# Altium schematic symbol library Sch_Device_veryaz.SchLib: 648 symbols (part 2 of 4)
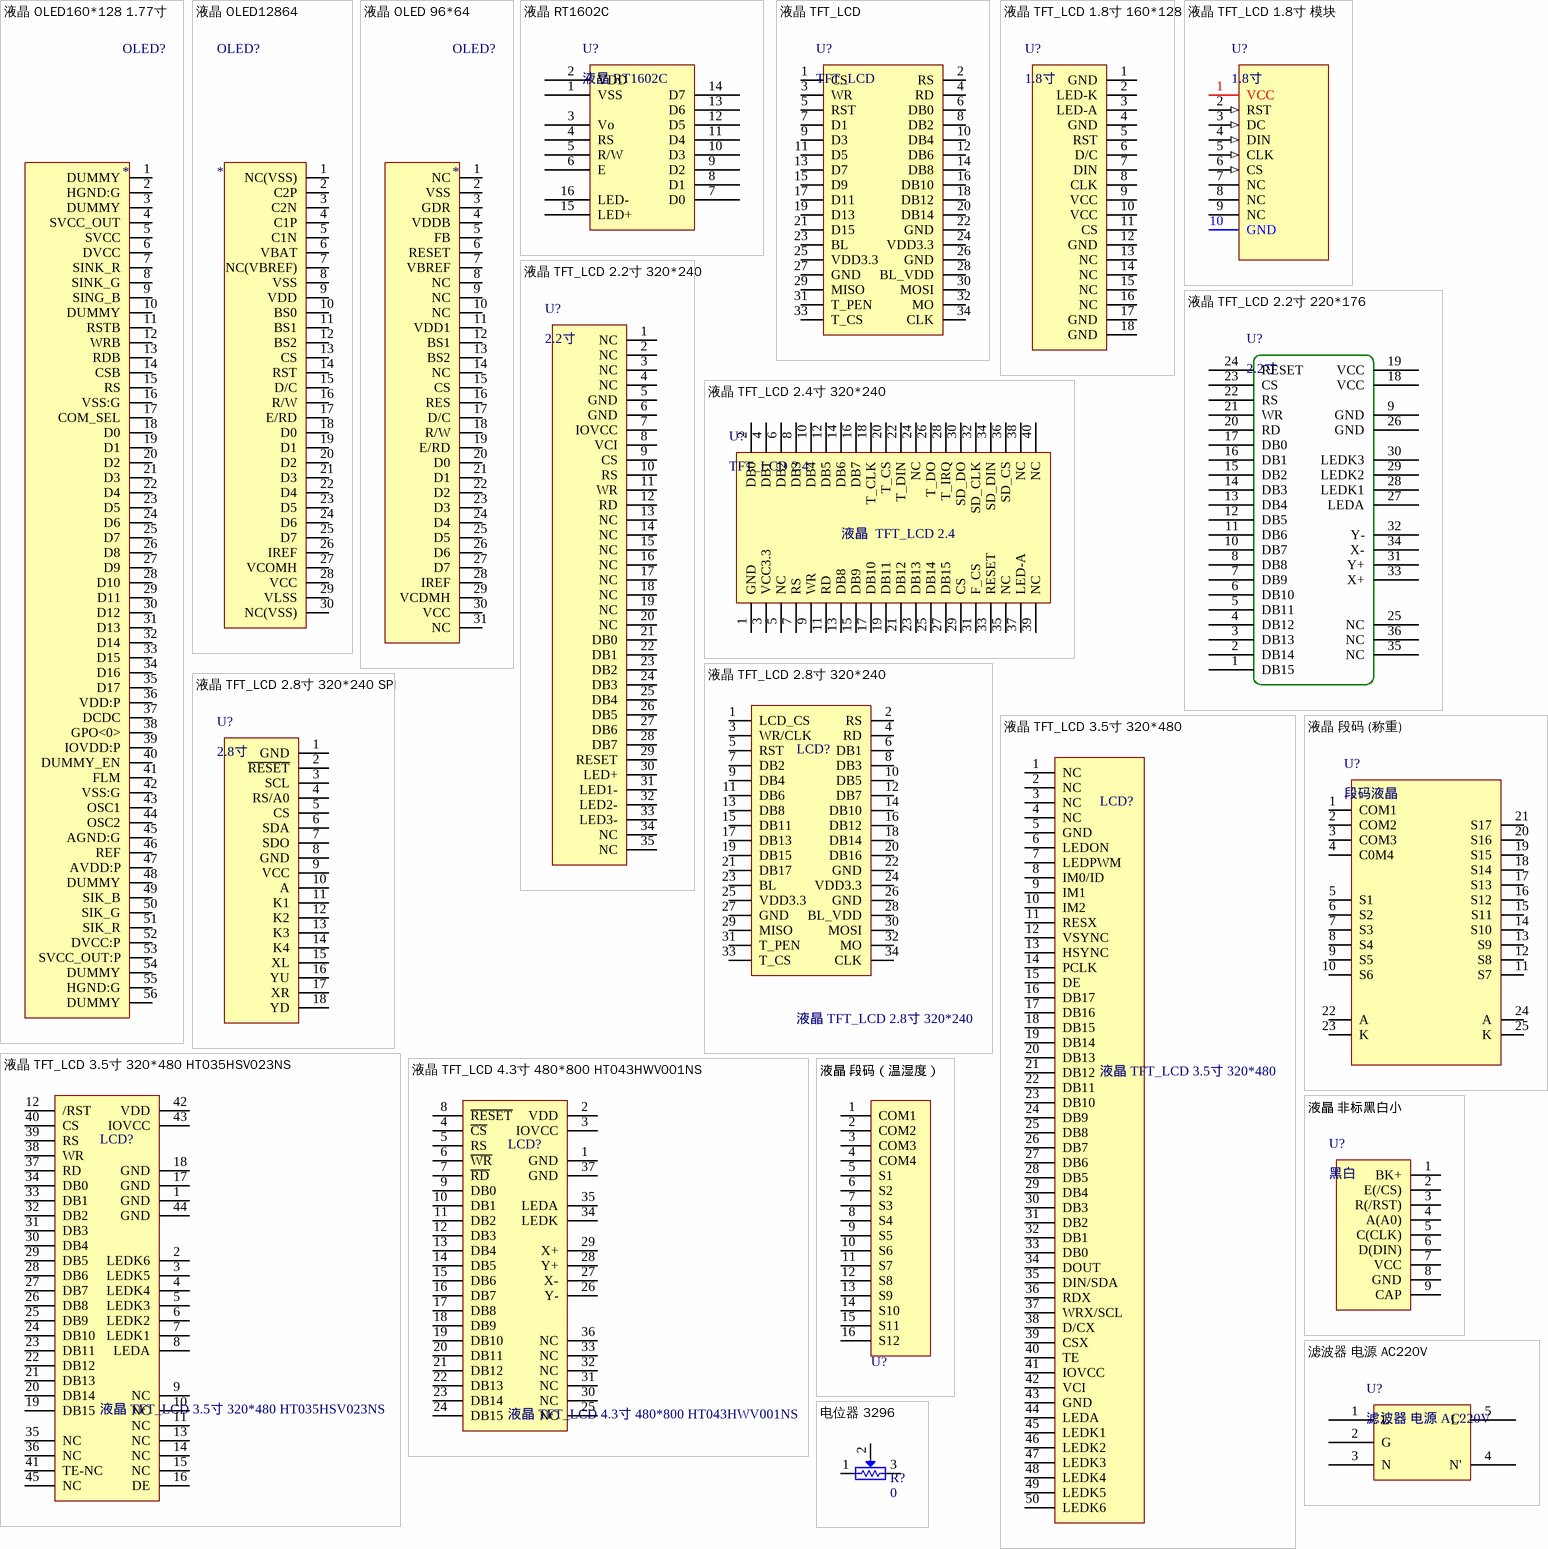
[diagram p32: symbols 液晶 OLED160*128 1.77寸 to 电位器 3296]

## 液晶 TFT_LCD 3.5寸 320*480 HT035HSV023NS
designator LCD?
单位: 块; 封装: 直插; 名称: 液晶屏
footprint 液晶 TFT 3.5寸  320*480 HT035SHV023NS
pins: 1 GND, 2 LEDK6, 3 LEDK5, 4 LEDK4, 5 LEDK3, 6 LEDK2, 7 LEDK1, 8 LEDA, 9 NC, 10 NC, 11 NC, 12 /RST, 13 NC, 14 NC, 15 NC, 16 DE, 17 GND, 18 GND, 19 DB15, 20 DB14, 21 DB13, 22 DB12, 23 DB11, 24 DB10, 25 DB9, 26 DB8, 27 DB7, 28 DB6, 29 DB5, 30 DB4, 31 DB3, 32 DB2, 33 DB1, 34 DB0, 35 NC, 36 NC, 37 RD, 38 WR, 39 RS, 40 CS, 41 TE-NC, 42 VDD, 43 IOVCC, 44 GND, 45 NC

## 液晶 TFT_LCD 4.3寸 480*800 HT043HWV001NS
designator LCD?
单位: 块; 封装: 直插; 名称: 液晶屏
footprint 液晶 TFT 4.3寸 480*800 HT043SWV001NS
pins: 1 GND, 2 VDD, 3 IOVCC, 4 ~{CS}, 5 RS, 6 ~{WR}, 7 ~{RD}, 8 ~{RESET}, 9 DB0, 10 DB1, 11 DB2, 12 DB3, 13 DB4, 14 DB5, 15 DB6, 16 DB7, 17 DB8, 18 DB9, 19 DB10, 20 DB11, 21 DB12, 22 DB13, 23 DB14, 24 DB15, 25 NC, 26 Y-, 27 X-, 28 Y+, 29 X+, 30 NC, 31 NC, 32 NC, 33 NC, 34 LEDK, 35 LEDA, 36 NC, 37 GND

## 液晶 段码 (称重)
designator U?, comment 段码液晶
footprint 段码液晶 称重 (Footprint not found)
pins: 1 COM1, 2 COM2, 3 COM3, 4 C0M4, 5 S1, 6 S2, 7 S3, 8 S4, 9 S5, 10 S6, 11 S7, 12 S8, 13 S9, 14 S10, 15 S11, 16 S12, 17 S13, 18 S14, 19 S15, 20 S16, 21 S17, 22 A, 23 K, 24 A, 25 K

## 液晶 段码（温湿度）
designator U?  (value not drawn)
单位: 个; 名称: 星望段码液晶; 封装: 无
footprint 液晶 段码（温湿度） (Footprint not found)
pins: 1 COM1, 2 COM2, 3 COM3, 4 COM4, 5 S1, 6 S2, 7 S3, 8 S4, 9 S5, 10 S6, 11 S7, 12 S8, 13 S9, 14 S10, 15 S11, 16 S12

## 液晶 非标黑白小
designator U?, comment 黑白
单位: 个; 封装: 贴片; 名称: 黑白
footprint 液晶 非标黑白小 (Footprint not found)
pins: 1 BK+, 2 E(/CS), 3 R(/RST), 4 A(A0), 5 C(CLK), 6 D(DIN), 7 VCC, 8 GND, 9 CAP

## 滤波器 电源 AC220V
designator U?
单位: 个; 封装: 直插; 名称: AC220 电源滤波器
footprint 滤波器 电源 220V
pins: 1 L, 2 G, 3 N, 4 N', 5 L'

## 电位器 3296
designator R?, comment 0
名称: 电位器; 封装: 直插 3296; 单位: 个
footprint 电位器 (Potentiometer; 3 Leads)
pins: 1 BOT, 2 TAP, 3 TOP
1 alternate drawing of the same symbol

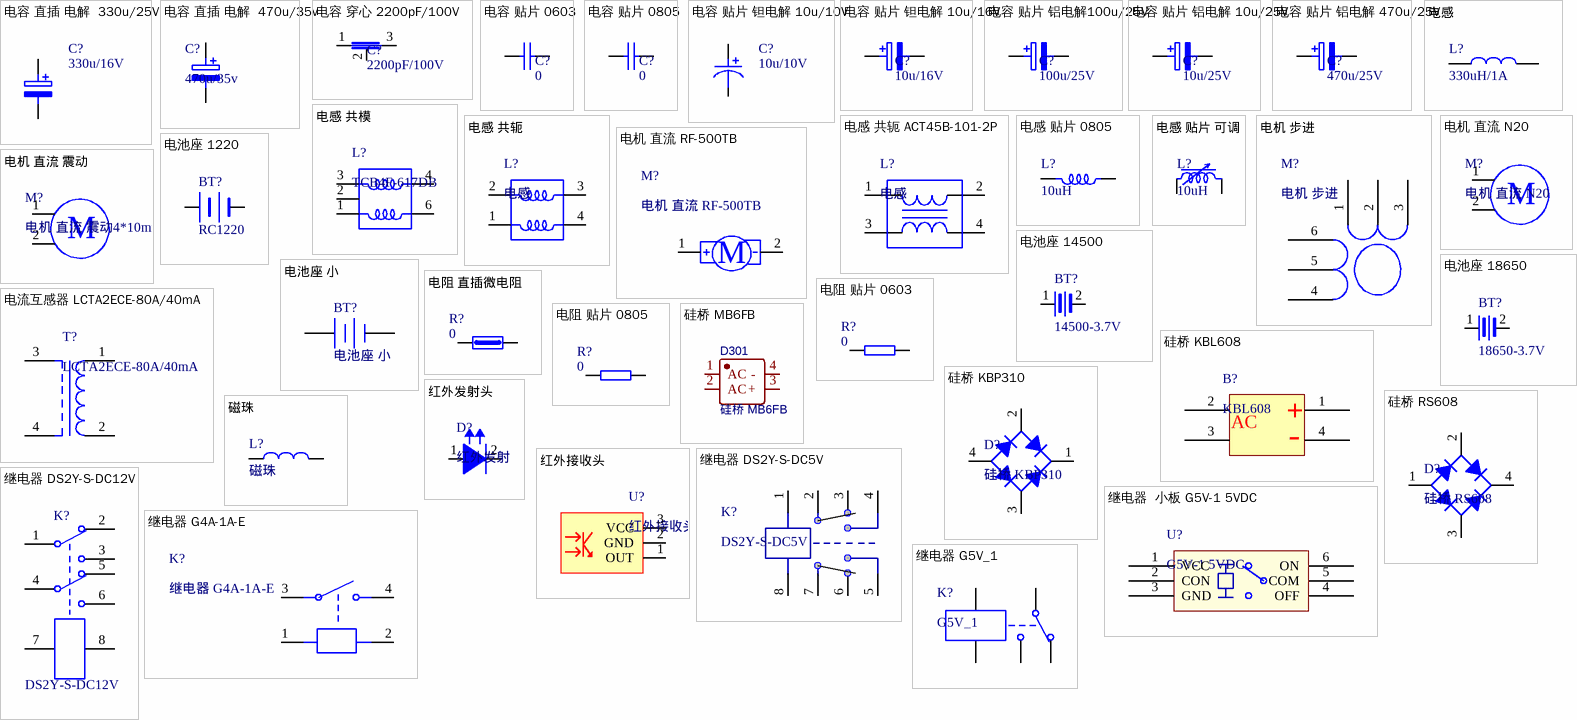
[diagram p9: symbols 电容 直插 电解  330u/25V to 继电器 G5V_1]

## 电容 直插 电解  330u/25V
designator C?, comment 330u/16V
名称: 电解电容; 封装: 直插; 单位: 个
footprint 电容 直插 470UF/25V
pins: 1, 2
2 alternate drawings of the same symbol

## 电容 直插 电解  470u/35v
designator C?, comment 470u/35v
名称: 电解电容; 封装: 直插; 单位: 个
footprint 电容 直插 470UF/25V
pins: 1, 2

## 电容 穿心 2200pF/100V
designator C?, comment 2200pF/100V
名称: 穿心电容; 封装: 直插; 单位: 个
footprint 电容 穿心 DIP3
pins: 1, 2, 3
2 alternate drawings of the same symbol

## 电容 贴片 0603
designator C?, comment 0
名称: 贴片电容; 封装: 0603; 单位: 个
footprint 0603
pins: 1, 2
2 alternate drawings of the same symbol

## 电容 贴片 0805
designator C?, comment 0
名称: 贴片电容; 封装: 0805; 单位: 个
footprint 0805
pins: 1, 2
2 alternate drawings of the same symbol

## 电容 贴片 钽电解 10u/10V
designator C?, comment 10u/10V
名称: 贴片钽电容; 封装: 贴片; 单位: 个
footprint 电容 钽电解 1206
pins: 1, 2
2 alternate drawings of the same symbol

## 电容 贴片 钽电解 10u/16V
designator C?, comment 10u/16V
名称: 贴片钽电解电容; 封装: 3528; 单位: 个
footprint 电容 钽电解 3528
pins: 1, 2
2 alternate drawings of the same symbol

## 电容 贴片 铝电解100u/25V
designator C?, comment 100u/25V
名称: 贴片铝电解电容; 封装: 贴片; 单位: 个
footprint 电容 铝电解 100u/25V
pins: 1, 2
2 alternate drawings of the same symbol

## 电容 贴片 铝电解 10u/25V
designator C?, comment 10u/25V
名称: 贴片铝电解电容; 封装: 贴片; 单位: 个
footprint 电容 铝电解 10u/25V
pins: 1, 2
2 alternate drawings of the same symbol

## 电容 贴片 铝电解 470u/25V
designator C?, comment 470u/25V
名称: 贴片铝电解电容; 封装: 贴片; 单位: 个
footprint 电容 铝电解 470U/35V
pins: 1, 2
2 alternate drawings of the same symbol

## 电感
designator L?, comment 330uH/1A
名称: 电感; 封装: 直插; 单位: 个
footprint 电感 直插
pins: 1, 2

## 电感 共模
designator L?, comment TCB4F-617DB
封装: 贴片; 单位: 个; 名称: 电感
footprint 电感 TCB4F-617DB (Footprint not found)
pins: 1, 2, 3, 4, 6

## 电感 共轭
designator L?, comment 电感
封装: DIP; 单位: 个; 名称: 电感
footprint 电感 DIP4 (Footprint not found)
pins: 1, 2, 3, 4

## 电感 共轭 ACT45B-101-2P
designator L?, comment 电感
封装: DIP; 单位: 个; 名称: 电感
footprint 电感 DIP4 (Footprint not found)
pins: 1, 2, 3, 4

## 电感 贴片 0805
designator L?, comment 10uH
名称: 贴片电感; 封装: 0805; 单位: 个
footprint 0805
pins: 1, 2

## 电感 贴片 可调
designator L?, comment 10uH
名称: 贴片电感; 封装: 0805; 单位: 个
footprint 0805
pins: 1, 2

## 电机 步进
designator M?
单位: 台; 封装: 固定安装; 名称: 电机_步进
footprint 电机_B
pins: 1, 2, 3, 4, 5, 6

## 电机 直流 N20
designator M?
单位: 个; 封装: 直插; 名称: N20
footprint N20电机
pins: 1 +, 2 -
text: M

## 电机 直流 RF-500TB
designator M?
单位: 台; 封装: 固定安装; 名称: 电机_直流
footprint 电机_D
pins: 1 +, 2 -
text: M

## 电机 直流 震动
designator M?, comment 电机 直流 震动4*10mm
单位: 个; 封装: 直插; 名称: 震动电机
footprint 电机_4*10mm (Footprint not found)
pins: 1 +, 2 -
text: M

## 电池座 1220
designator BT?, comment RC1220
footprint BAT-3V
pins: 1 +, 2 -
2 alternate drawings of the same symbol

## 电池座 14500
designator BT?, comment 14500-3.7V
footprint 电池座 14500
pins: 1 +, 2 -
2 alternate drawings of the same symbol

## 电池座 18650
designator BT?, comment 18650-3.7V
footprint 电池座 18650
pins: 1 +, 2 -
2 alternate drawings of the same symbol

## 电池座 小
designator BT?
Published: 24-Mar-1999; LatestRevisionDate: 17-Jul-2002; LatestRevisionNote: Re-released for DXP Platform.; PackageReference: BAT-2; Publisher: Altium Limited
footprint 电池-3.3V 平放
pins: 1 +, 2 -

## 电流互感器 LCTA2ECE-80A/40mA
designator T?, comment LCTA2ECE-80A/40mA
封装: 直插; 单位: 个; 名称: 电流互感器
footprint 电流互感器 LCTA2ECE-80A/40mA
pins: 1, 2, 3, 4

## 电阻 直插微电阻
designator R?, comment 0
名称: 微电阻; 封装: 直插; 单位: 个
footprint AXIAL-0.4 (Resistor; 2 Leads)
pins: 1, 2

## 电阻 贴片 0603
designator R?, comment 0
名称: 贴片电阻; 封装: 0603; 单位: 个
footprint 0603
pins: 1, 2

## 电阻 贴片 0805
designator R?, comment 0
名称: 贴片电阻; 封装: 0805; 单位: 个
footprint 0805
pins: 1, 2

## 硅桥 KBL608
designator B?, comment KBL608
封装: 直插; 单位: 个; 名称: 硅桥
footprint 硅桥 KBL608
pins: 1, 2, 3, 4
text: +; AC; -

## 硅桥 KBP310
designator D?
单位: 个; 封装: 直插; 名称: 硅桥
footprint 硅桥 KBL310
pins: 1 -, 2, 3, 4 +

## 硅桥 MB6FB
designator D301
BOM_Manufacturer: Jingdao; BOM_Paste Type: expand; BOM_Supplier: LCSC; BOM_Manufacturer Part: MB6FB; BOM_Supplier Part: C108828; spicePre: D; spiceSymbolName: MB6FB
footprint MBF (Footprint not found)
pins: 1 AC, 2 AC, 3 +, 4 -

## 硅桥 RS608
designator D?
单位: 个; 封装: 直插; 名称: 硅桥
footprint 硅桥 KBL608
pins: 1 -, 2, 3, 4 +

## 磁珠
designator L?
封装: 0805; 单位: 个; 名称: 磁珠
footprint 0805
pins: 1, 2

## 红外发射头
designator D?, comment 红外发射
单位: 个; 封装: 直插; 名称: 红外发射
footprint LED5_单色
pins: 1 A, 2 K

## 红外接收头
designator U?
单位: 个; 封装: 直插; 名称: 红外接收头
footprint 红外接收头
pins: 1 OUT, 2 GND, 3 VCC

## 继电器  小板 G5V-1 5VDC
designator U?, comment G5V-1 5VDC
footprint 继电器 小板 G5V-1 5VDC
pins: 1 VCC, 2 CON, 3 GND, 4 OFF, 5 COM, 6 ON

## 继电器 DS2Y-S-DC5V
designator K?, comment DS2Y-S-DC5V
单位: 个; 名称: 继电器
footprint 继电器 DS2Y-S-DC5V
pins: 1, 2, 3, 4, 5, 6, 7, 8

## 继电器 DS2Y-S-DC12V
designator K?, comment DS2Y-S-DC12V
名称: 继电器; 单位: 个; 封装: 直插
footprint 继电器 DS2Y-S-DC12V
footprint 继电器 DS2Y-S-DC5V
pins: 1, 2, 3, 4, 5, 6, 7, 8

## 继电器 G4A-1A-E
designator K?
单位: 个; 封装: 继电器 G4A-1A-E; 名称: 继电器
footprint 继电器 G4A-1A-E
pins: 1, 2, 3, 4

## 继电器 G5V_1
designator K?, comment G5V_1
单位: 个; 封装: G5V-1; 名称: 继电器
footprint 继电器 G5V-1
pins: 1, 2, 3, 4, 5

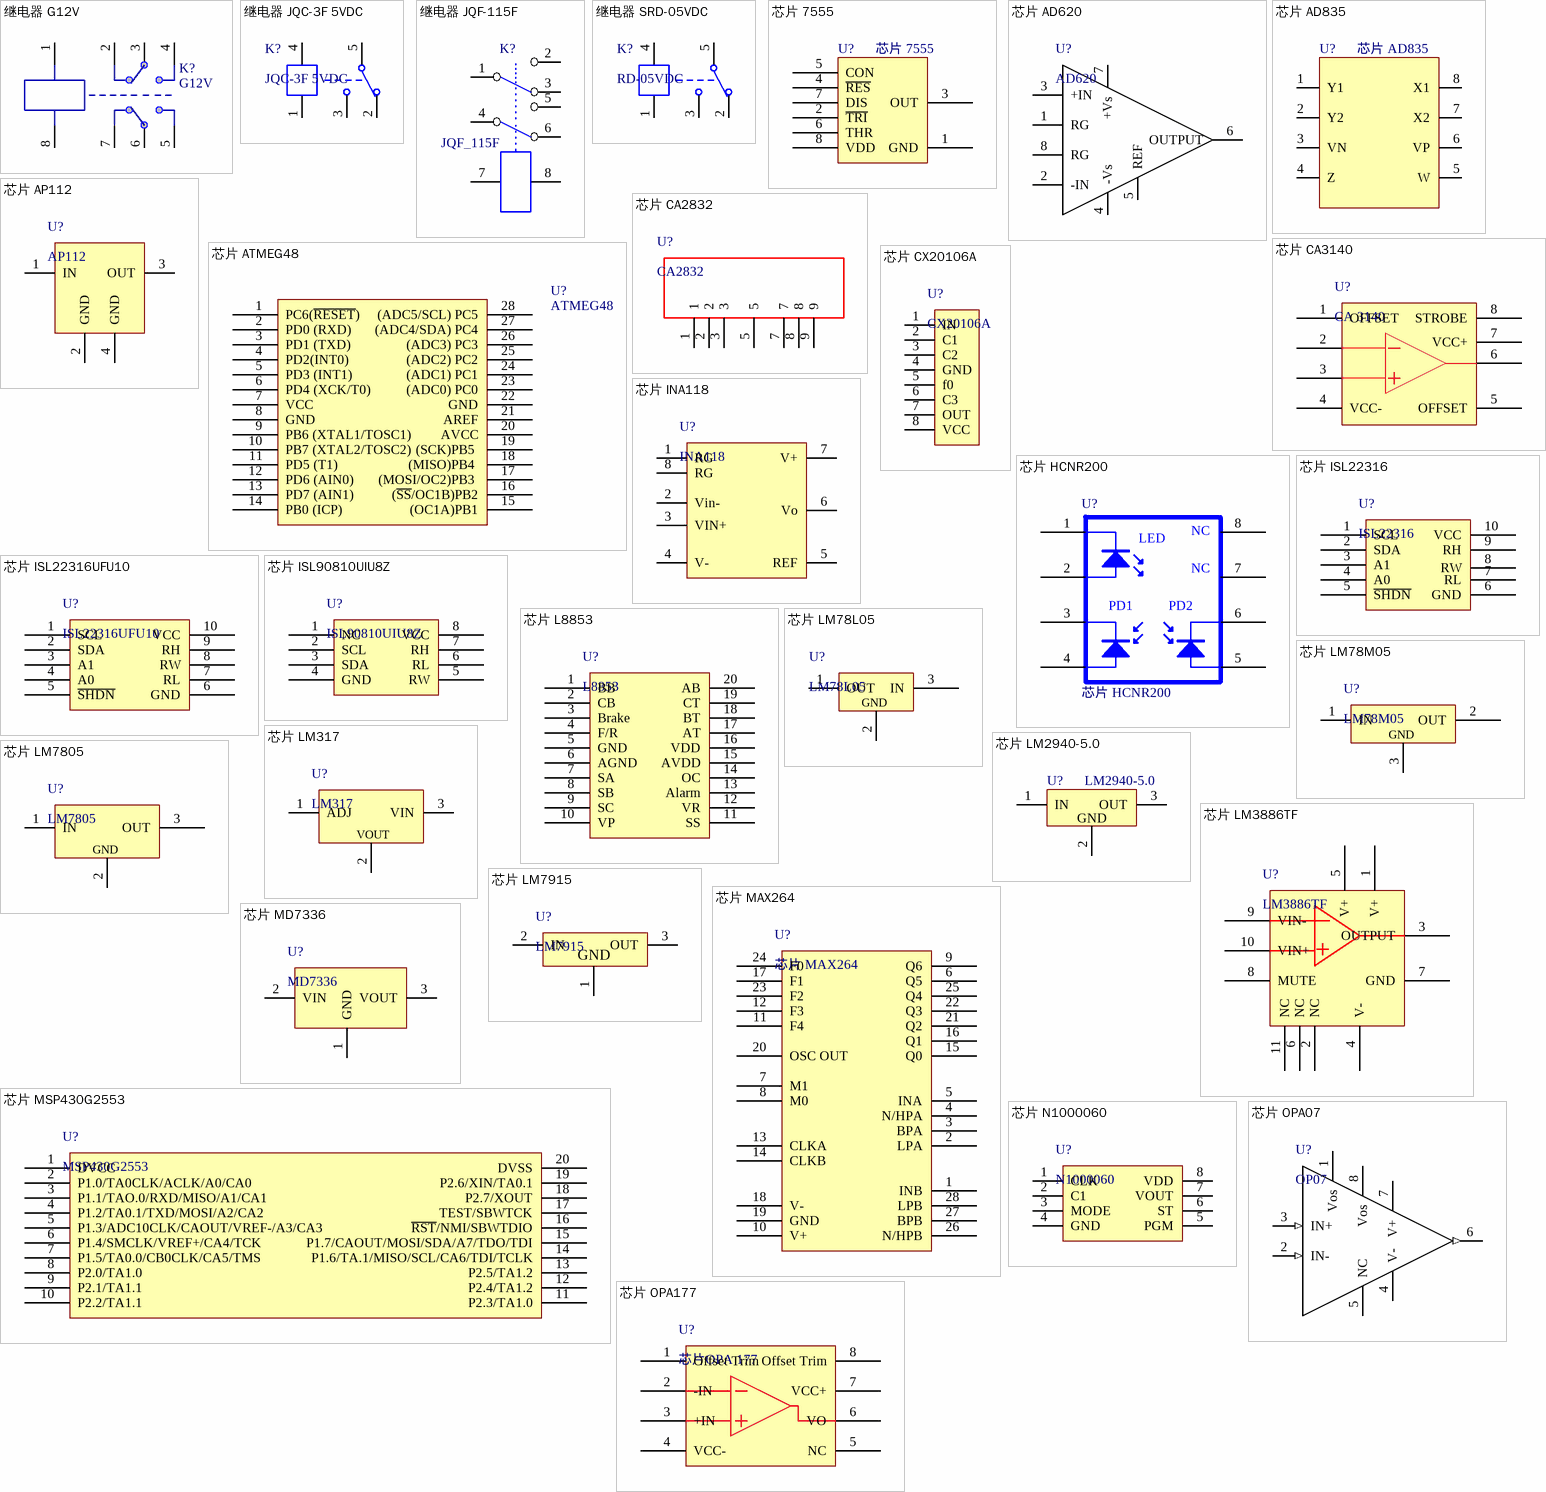
[diagram p10: symbols 继电器 G12V to 芯片 OPA177]

## 继电器 G12V
designator K?, comment G12V
单位: 个; 名称: 继电器
footprint 继电器 G2R-2
pins: 1, 2, 3, 4, 5, 6, 7, 8

## 继电器 JQC-3F 5VDC
designator K?, comment JQC-3F 5VDC
单位: 个; 名称: 继电器; 封装: JQC-3F 5VDC
footprint 继电器 JQC-3F 5VDC (Footprint not found)
pins: 1, 2, 3, 4, 5

## 继电器 JQF-115F
designator K?, comment JQF_115F
footprint 继电器 JQF_115F
pins: 1, 2, 3, 4, 5, 6, 7, 8

## 继电器 SRD-05VDC
designator K?, comment RD-05VDC
单位: 个; 名称: 继电器; 封装: RD-05VDC
footprint 继电器 RD-05VDC (Footprint not found)
pins: 1, 2, 3, 4, 5

## 芯片 7555
designator U?
封装: DIP8; 单位: 片; 名称: 芯片
footprint DIP8 (DIP; 8 Leads; Row Spacing 7.62 mm; Pitch 2.54 mm)
pins: 1 GND, 2 ~{TRI}, 3 OUT, 4 ~{RES}, 5 CON, 6 THR, 7 DIS, 8 VDD

## 芯片 AD620
designator U?, comment AD620
单位: 片; 封装: DIP8; 名称: 芯片
footprint DIP8 (DIP; 8 Leads; Row Spacing 7.62 mm; Pitch 2.54 mm)
pins: 1 RG, 2 -IN, 3 +IN, 4 -Vs, 5 REF, 6 OUTPUT, 7 +Vs, 8 RG

## 芯片 AD835
designator U?
封装: DIP8; 单位: 片; 名称: 芯片
footprint DIP8 (DIP; 8 Leads; Row Spacing 7.62 mm; Pitch 2.54 mm)
pins: 1 Y1, 2 Y2, 3 VN, 4 Z, 5 W, 6 VP, 7 X2, 8 X1

## 芯片 AP112
designator U?, comment AP112
footprint SOT89 AP112
pins: 1 IN, 2 GND, 3 OUT, 4 GND

## 芯片 ATMEG48
designator U?, comment ATMEG48
名称: 芯片; 封装: PDIP28; 单位: 个
footprint DIP28
pins: 1 PC6(~{RESET}) , 2 PD0 (RXD), 3 PD1 (TXD), 4 PD2(INT0), 5 PD3 (INT1), 6 PD4 (XCK/T0), 7 VCC, 8 GND, 9 PB6 (XTAL1/TOSC1), 10 PB7 (XTAL2/TOSC2), 11 PD5 (T1), 12 PD6 (AIN0), 13 PD7 (AIN1), 14 PB0 (ICP), 15  (OC1A)PB1, 16  (~{SS}/OC1B)PB2, 17 (MOSI/OC2)PB3 , 18 (MISO)PB4 , 19 (SCK)PB5 , 20 AVCC, 21 AREF, 22 GND, 23 (ADC0) PC0, 24 (ADC1) PC1, 25 (ADC2) PC2, 26 (ADC3) PC3, 27 (ADC4/SDA) PC4, 28 (ADC5/SCL) PC5

## 芯片 CA2832
designator U?, comment CA2832
名称: 芯片; 封装: DIP; 单位: 个
pins: 1, 2, 3, 5, 7, 8, 9

## 芯片 CA3140
designator U?, comment CA 3140
单位: 个; 封装: DIP8; 名称: 芯片
footprint DIP8 (DIP; 8 Leads; Row Spacing 7.62 mm; Pitch 2.54 mm)
pins: 1 OFFSET, 2 IN  -, 3 IN  +, 4 VCC-, 5 OFFSET, 6 OUT, 7 VCC+, 8 STROBE

## 芯片 CX20106A
designator U?, comment CX20106A
单位: 个; 封装: DIP8; 名称: 芯片
footprint DIP8 (DIP; 8 Leads; Row Spacing 7.62 mm; Pitch 2.54 mm)
pins: 1 IN, 2 C1, 3 C2, 4 GND, 5 f0, 6 C3, 7 OUT, 8 VCC

## 芯片 HCNR200
designator U?
单位: 片; 封装: DIP8; 名称: 芯片
footprint DIP8
footprint DIP8-HCNR200
pins: 1, 2, 3, 4, 5, 6, 7, 8
text: NC; LED; PD1; PD2

## 芯片 INA118
designator U?, comment INA118
单位: 片; 封装: DIP8; 名称: 芯片
footprint DIP8 (DIP; 8 Leads; Row Spacing 7.62 mm; Pitch 2.54 mm)
pins: 1 RG, 2 Vin-, 3 VIN+, 4 V-, 5 REF, 6 Vo, 7 V+, 8 RG

## 芯片 ISL22316
designator U?, comment ISL22316
封装: DIP10; 单位: 片; 名称: 芯片
footprint DIP10
pins: 1 SCL, 2 SDA, 3 A1, 4 A0, 5 ~{SHDN}, 6 GND, 7 RL, 8 RW, 9 RH, 10 VCC

## 芯片 ISL22316UFU10
designator U?, comment ISL22316UFU10
单位: 个; 封装: MSOP10; 名称: 芯片
footprint MSOP10
pins: 1 SCL, 2 SDA, 3 A1, 4 A0, 5 ~{SHDN}, 6 GND, 7 RL, 8 RW, 9 RH, 10 VCC

## 芯片 ISL90810UIU8Z
designator U?, comment ISL90810UIU8Z
单位: 个; 封装: MSOP8; 名称: 芯片
footprint MSOP8
pins: 1 NC, 2 SCL, 3 SDA, 4 GND, 5 RW, 6 RL, 7 RH, 8 VCC

## 芯片 L8853
designator U?, comment L8853
单位: 片; 封装: SSOP20; 名称: 芯片
footprint L8853_SSOP
pins: 1 BB, 2 CB, 3 Brake, 4 F/R, 5 GND, 6 AGND, 7 SA, 8 SB, 9 SC, 10 VP, 11 SS, 12 VR, 13 Alarm, 14 OC, 15 AVDD, 16 VDD, 17 AT, 18 BT, 19 CT, 20 AB

## 芯片 LM78L05
designator U?, comment LM78L05
单位: 个; 封装: TO92; 名称: 芯片
footprint TO92/A
pins: 1 OUT, 2, 3 IN
text: GND

## 芯片 LM78M05
designator U?, comment LM78M05
单位: 个; 封装: OP3; 名称: 芯片
footprint OP3
pins: 1 IN, 2 OUT, 3 GND

## 芯片 LM317
designator U?, comment LM317
单位: 个; 封装: TO3B; 名称: 芯片
footprint T03B
pins: 1 ADJ, 2 VOUT, 3 VIN

## 芯片 LM2940-5.0
designator U?, comment LM2940-5.0
名称: 芯片; 封装: TO3B; 单位: 个
footprint T03B
pins: 1 IN (power), 2 GND (power), 3 OUT (power)

## 芯片 LM3886TF
designator U?, comment LM3886TF
单位: 片; 封装: 直插; 名称: 芯片
footprint LM3886TF
pins: 1 V+, 2 NC, 3 OUTPUT, 4 V-, 5 V+, 6 NC, 7 GND, 8 MUTE, 9 VIN-, 10 VIN+, 11 NC
text: +

## 芯片 LM7805
designator U?, comment LM7805
单位: 个; 封装: TO3B; 名称: 三端稳压芯片
footprint T03B
pins: 1 IN, 2, 3 OUT
text: GND

## 芯片 LM7915
designator U?, comment LM7915
单位: 个; 封装: TO3B; 名称: 三段稳压芯片
footprint T03B
pins: 1, 2 IN, 3 OUT
text: GND

## 芯片 MAX264
designator U?
单位: 片; 封装: 直插; 名称: 芯片
footprint DIP28
pins: 1 INB, 2 LPA, 3 BPA, 4 N/HPA, 5 INA, 6 Q5, 7 M1, 8 M0, 9 Q6, 10 V+, 11 F4, 12 F3, 13 CLKA, 14 CLKB, 15 Q0, 16 Q1, 17 F1, 18 V-, 19 GND, 20 OSC OUT, 21 Q2, 22 Q3, 23 F2, 24 F0, 25 Q4, 26 N/HPB, 27 BPB, 28 LPB

## 芯片 MD7336
designator U?, comment MD7336
名称: 芯片; 单位: 片; 封装: TO92
footprint TO92/C
pins: 1 GND, 2 VIN, 3 VOUT

## 芯片 MSP430G2553
designator U?, comment MSP430G2553
单位: 片; 封装: DIP20; 名称: 芯片
footprint DIP20
pins: 1 DVCC, 2 P1.0/TA0CLK/ACLK/A0/CA0, 3 P1.1/TAO.0/RXD/MISO/A1/CA1, 4 P1.2/TA0.1/TXD/MOSI/A2/CA2, 5 P1.3/ADC10CLK/CAOUT/VREF-/A3/CA3, 6 P1.4/SMCLK/VREF+/CA4/TCK, 7 P1.5/TA0.0/CB0CLK/CA5/TMS, 8 P2.0/TA1.0, 9 P2.1/TA1.1, 10 P2.2/TA1.1, 11 P2.3/TA1.0, 12 P2.4/TA1.2, 13 P2.5/TA1.2, 14 P1.6/TA.1/MISO/SCL/CA6/TDI/TCLK, 15 P1.7/CAOUT/MOSI/SDA/A7/TDO/TDI, 16 ~{RST}/NMI/SBWTDIO, 17 TEST/SBWTCK, 18 P2.7/XOUT, 19 P2.6/XIN/TA0.1, 20 DVSS

## 芯片 N1000060
designator U?, comment N1000060
名称: 芯片; 单位: 片; 封装: DIP8
footprint DIP8 (DIP; 8 Leads; Row Spacing 7.62 mm; Pitch 2.54 mm)
pins: 1 CLK, 2 C1, 3 MODE, 4 GND, 5 PGM, 6 ST, 7 VOUT, 8 VDD

## 芯片 OPA07
designator U?, comment OP07
单位: 片; 封装: SOIC 8; 名称: 贴片芯片
footprint SO8
pins: 1 Vos, 2 IN- (in), 3 IN+ (in), 4 V- (power), 5 NC, 6 OUT (out), 7 V+ (power), 8 Vos

## 芯片 OPA177
designator U?, comment 芯片OPA 177
单位: 片; 封装: DIP8; 名称: 芯片
footprint DIP8 (DIP; 8 Leads; Row Spacing 7.62 mm; Pitch 2.54 mm)
pins: 1 Offset Trim, 2 -IN, 3 +IN, 4 VCC-, 5 NC, 6 VO, 7 VCC+, 8 Offset Trim

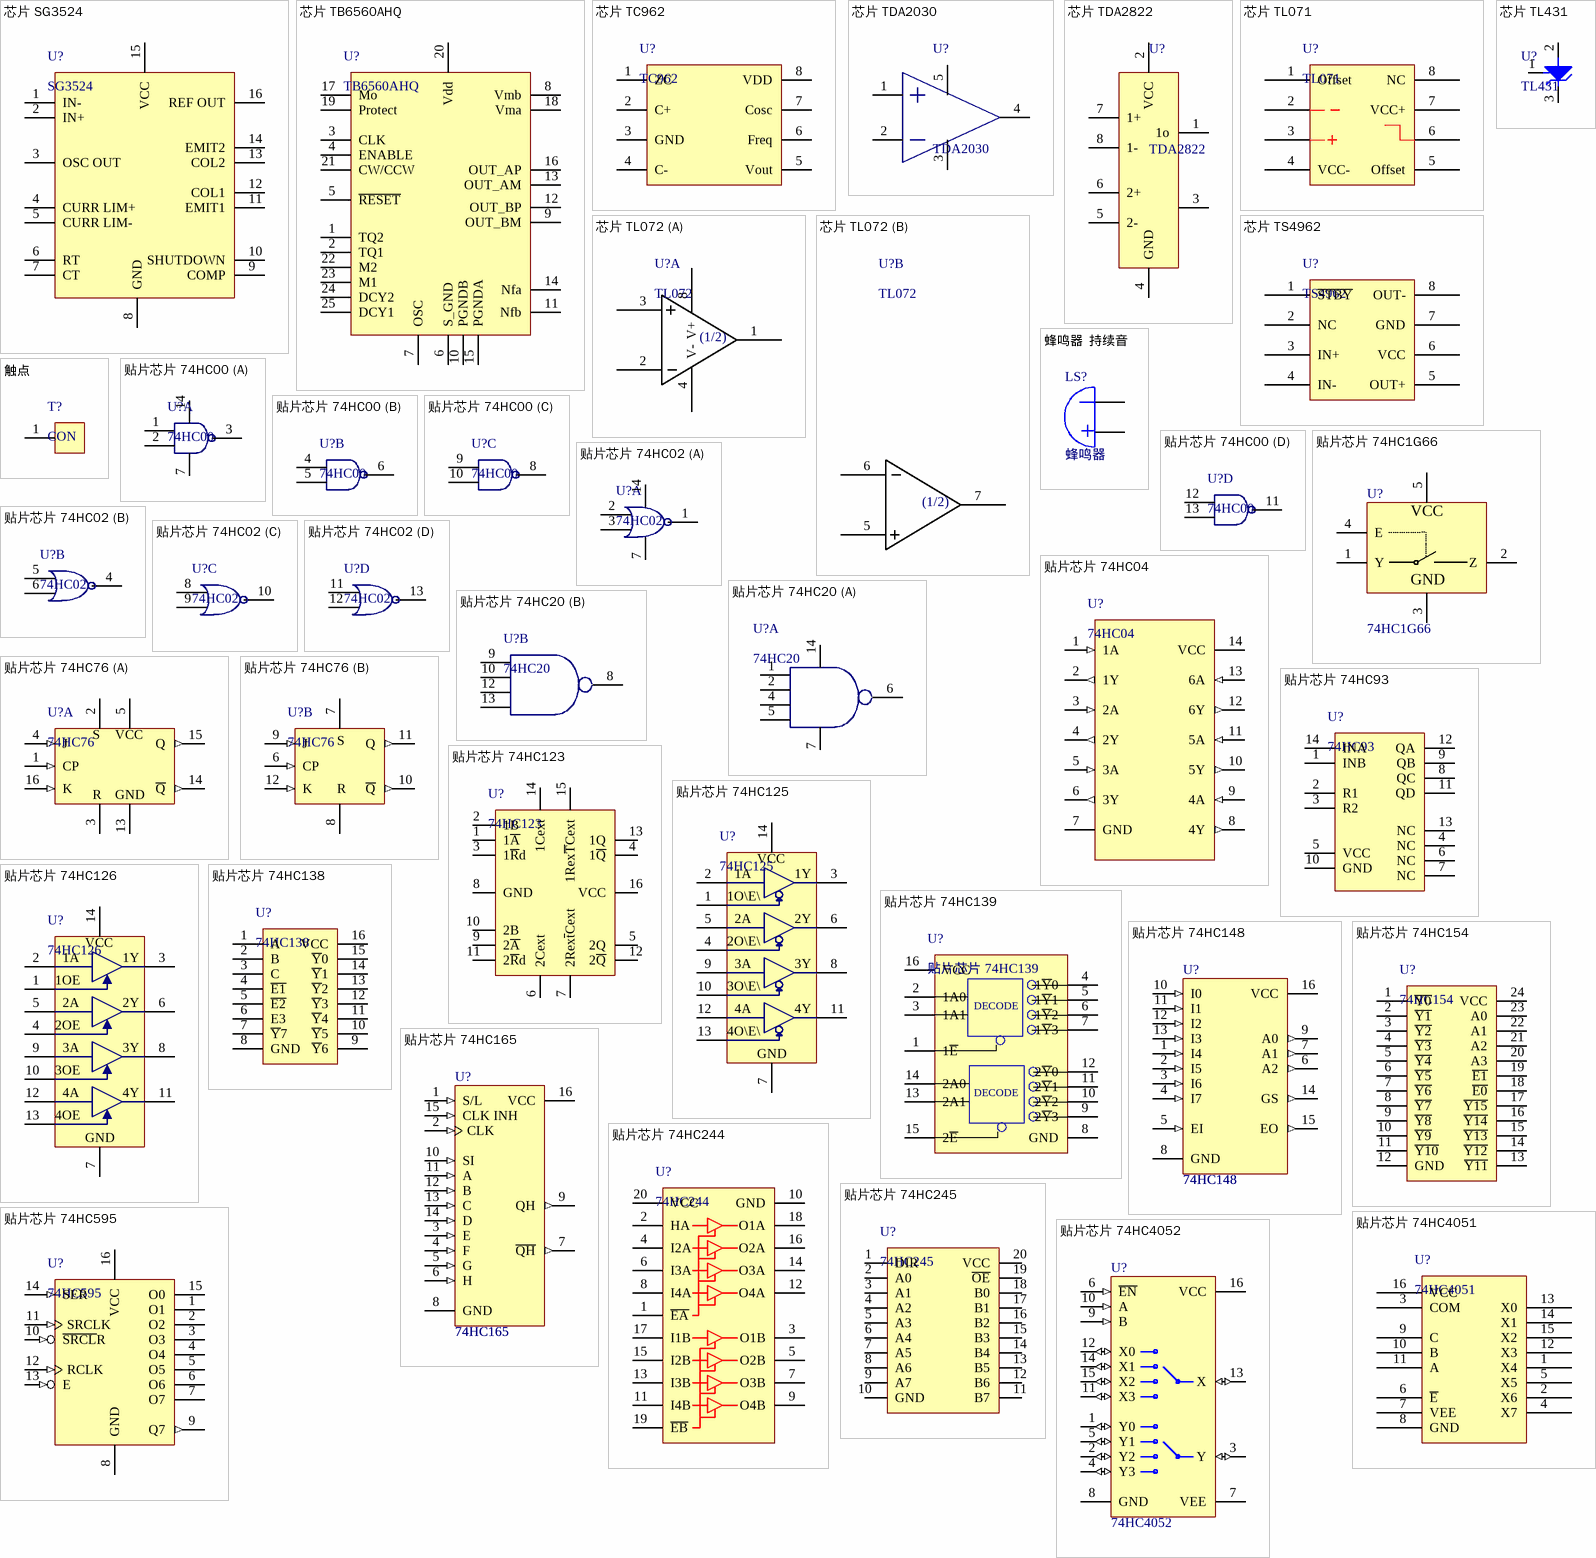
[diagram p11: symbols 芯片 SG3524 to 贴片芯片 74HC4052]

## 芯片 SG3524
designator U?, comment SG3524
名称: 芯片; 单位: 片; 封装: 直插
footprint DIP16 (DIP; 16 Leads; Row Spacing 7.62 mm; Pitch 2.54 mm)
pins: 1 IN-, 2 IN+, 3 OSC OUT, 4 CURR LIM+, 5 CURR LIM-, 6 RT, 7 CT, 8 GND, 9 COMP, 10 SHUTDOWN, 11 EMIT1, 12 COL1, 13 COL2, 14 EMIT2, 15 VCC, 16 REF OUT

## 芯片 TB6560AHQ
designator U?, comment TB6560AHQ
名称: 芯片; 单位: 片; 封装: HZIP-25
footprint HZIP-25
pins: 1 TQ2, 2 TQ1, 3 CLK, 4 ENABLE, 5 ~{RESET}, 6 S_GND, 7 OSC, 8 Vmb, 9 OUT_BM, 10 PGNDB, 11 Nfb, 12 OUT_BP, 13 OUT_AM, 14 Nfa, 15 PGNDA, 16 OUT_AP, 17 Mo, 18 Vma, 19 Protect, 20 Vdd, 21 CW/CCW, 22 M2, 23 M1, 24 DCY2, 25 DCY1

## 芯片 TC962
designator U?, comment TC962
单位: 个; 封装: DIP8; 名称: 芯片
footprint DIP8 (DIP; 8 Leads; Row Spacing 7.62 mm; Pitch 2.54 mm)
pins: 1 ZC, 2 C+, 3 GND, 4 C-, 5 Vout, 6 Freq, 7 Cosc, 8 VDD

## 芯片 TDA2030
designator U?, comment TDA2030
名称: 芯片; 封装: TO220; 单位: 个
footprint TO220 TDA2030-YA30
pins: 1, 2, 3 -vss, 4, 5

## 芯片 TDA2822
designator U?, comment TDA2822
名称: 芯片; 封装: DIP8; 单位: 个
footprint DIP8 (DIP; 8 Leads; Row Spacing 7.62 mm; Pitch 2.54 mm)
pins: 1 1o, 2 VCC, 3 2o, 4 GND, 5 2-, 6 2+, 7 1+, 8 1-

## 芯片 TL071
designator U?, comment TL071
单位: 片; 封装: 直插; 名称: 芯片
footprint DIP8 (DIP; 8 Leads; Row Spacing 7.62 mm; Pitch 2.54 mm)
pins: 1 Offset, 2, 3, 4 VCC-, 5 Offset, 6, 7 VCC+, 8 NC

## 芯片 TL072
designator U?, comment TL072
单位: 片; 封装: DIP8; 名称: 芯片
footprint DIP8 (DIP; 8 Leads; Row Spacing 7.62 mm; Pitch 2.54 mm)
part A pins: 1 OUT1, 2 -, 3, 4 V-, 8 V+
part B pins: 5 3, 6 -, 7 OUT1
part A text: (1/2)
part B text: (1/2)

## 芯片 TL431
designator U?, comment TL431
单位: 片; 封装: TO92; 名称: 芯片
footprint TO92 TL431
pins: 1 Ref, 2 Yang, 3 Yin

## 芯片 TS4962
designator U?, comment TS4962
单位: 片; 封装: DIP8; 名称: 芯片
footprint DIP8 (DIP; 8 Leads; Row Spacing 7.62 mm; Pitch 2.54 mm)
pins: 1 ~{STBY}, 2 NC, 3 IN+, 4 IN-, 5 OUT+, 6 VCC, 7 GND, 8 OUT-

## 蜂鸣器  持续音
designator LS?, comment 蜂鸣器
封装: 直插; 单位: 个; 名称: 蜂鸣器
footprint 蜂鸣器
pins: 1 A, 2 B
text: +

## 触点
designator T?, comment CON
单位: 个; 名称: 触点; 封装: 无
footprint 触点 5*7
pins: 1

## 贴片芯片 74HC00
designator U?, comment 74HC00
单位: 片; 封装: SOIC14; 名称: 贴片芯片
footprint SOIC14 (Footprint not found)
part A pins: 1, 2, 3, 7, 14
part B pins: 4, 5, 6
part C pins: 8, 9, 10
part D pins: 11, 12, 13

## 贴片芯片 74HC1G66
designator U?, comment 74HC1G66
模拟开关; 名称: 芯片; 封装: TSSOP5; 单位: 个
footprint TSSOP5 (Footprint not found)
pins: 1 Y, 2 Z, 3 GND, 4 E, 5 VCC
2 alternate drawings of the same symbol

## 贴片芯片 74HC02
designator U?, comment 74HC02
单位: 片; 封装: SOIC14; 名称: 贴片芯片
footprint SOIC14 (Footprint not found)
part A pins: 1, 2, 3, 7, 14
part B pins: 4, 5, 6
part C pins: 8, 9, 10
part D pins: 11, 12, 13

## 贴片芯片 74HC04
designator U?, comment 74HC04
封装: SOIC14; 名称: 贴片芯片; 单位: 片
footprint SOIC14 (Small Outline; 16 Leads; Body Width 3.9 mm; Pitch 1.27 mm)
pins: 1 1A (in), 2 1Y (out), 3 2A (in), 4 2Y (out), 5 3A (in), 6 3Y (out), 7 GND, 8 4Y (out), 9 4A (in), 10 5Y (out), 11 5A (in), 12 6Y (out), 13 6A (in), 14 VCC

## 贴片芯片 74HC20
designator U?, comment 74HC20
单位: 片; 封装: SOIC14; 名称: 贴片芯片
footprint SOIC14 (Footprint not found)
part A pins: 1, 2, 4, 5, 6, 7, 14
part B pins: 8, 9, 10, 12, 13

## 贴片芯片 74HC76
designator U?, comment 74HC76
单位: 片; 封装: SOIC16; 名称: 贴片芯片
footprint SOIC16 (Small Outline; 16 Leads; Body Width 3.9 mm; Pitch 1.27 mm)
part A pins: 1 CP (in), 2 S, 3 R, 4 J (in), 5 VCC, 13 GND, 14 ~{Q} (out), 15 Q (out), 16 K (in)
part B pins: 6 CP (in), 7 S, 8 R, 9 J (in), 10 ~{Q} (out), 11 Q (out), 12 K (in)

## 贴片芯片 74HC93
designator U?, comment 74HC93
单位: 片; 封装: SOIC14; 名称: 贴片芯片
footprint SOIC14 (Footprint not found)
pins: 1 INB, 2 R1, 3 R2, 4 NC, 5 VCC, 6 NC, 7 NC, 8 QC, 9 QB, 10 GND, 11 QD, 12 QA, 13 NC, 14 INA

## 贴片芯片 74HC123
designator U?, comment 74HC123
单位: 片; 封装: SOIC16; 名称: 贴片芯片
footprint SOIC16 (Small Outline; 16 Leads; Body Width 3.9 mm; Pitch 1.27 mm)
pins: 1 1~{A}, 2 1B, 3 1~{R}d, 4 1~{Q}, 5 2Q, 6 2Cext, 7 2Rex~{t}Cext, 8 GND, 9 2~{A}, 10 2B, 11 2~{R}d, 12 2~{Q}, 13 1Q, 14 1Cext, 15 1Rex~{T}Cext, 16 VCC

## 贴片芯片 74HC125
designator U?, comment 74HC125
单位: 片; 封装: SOIC14; 名称: 贴片芯片
footprint SOIC14 (Footprint not found)
pins: 1, 2, 3, 4, 5, 6, 7, 8, 9, 10, 11, 12, 13, 14
text: VCC; 1A; 1Y; 1O\E\; 2A; 2Y; 2O\E\; 3A; 3Y; 3O\E\; 4A; 4Y; 4O\E\; GND

## 贴片芯片 74HC126
designator U?, comment 74HC126
单位: 片; 封装: SOIC14; 名称: 贴片芯片
footprint SOIC14 (Footprint not found)
pins: 1, 2, 3, 4, 5, 6, 7, 8, 9, 10, 11, 12, 13, 14
text: VCC; 1A; 1Y; 1OE; 2A; 2Y; 2OE; 3A; 3Y; 3OE; 4A; 4Y; 4OE; GND

## 贴片芯片 74HC138
designator U?, comment 74HC138
单位: 片; 封装: SOIC16; 名称: 贴片芯片
footprint SOIC16 (Small Outline; 16 Leads; Body Width 3.9 mm; Pitch 1.27 mm)
pins: 1 A, 2 B, 3 C, 4 ~{E1}, 5 ~{E2}, 6 E3, 7 ~{Y}7, 8 GND, 9 ~{Y}6, 10 ~{Y}5, 11 ~{Y}4, 12 ~{Y}3, 13 ~{Y}2, 14 ~{Y}1, 15 ~{Y}0, 16 VCC

## 贴片芯片 74HC139
designator U?
单位: 片; 封装: SOIC16; 名称: 贴片芯片
footprint soic16 (Small Outline; 16 Leads; Body Width 3.9 mm; Pitch 1.27 mm)
pins: 1 1~{E}, 2 1A0, 3 1A1, 4 1~{Y}0, 5 1~{Y}1, 6 1~{Y}2, 7 1~{Y}3, 8 GND, 9 2~{Y}3, 10 2~{Y}2, 11 2~{Y}1, 12 2~{Y}0, 13 2A1, 14 2A0, 15 2~{E}, 16 VCC
text: DECODE

## 贴片芯片 74HC148
designator U?, comment 74HC148
名称: 贴片芯片; 封装: SOIC16; 单位: 个
footprint SOIC16 (Small Outline; 16 Leads; Body Width 3.9 mm; Pitch 1.27 mm)
footprint SOIC16 (Small Outline; 16 Leads; Body Width 3.9 mm; Pitch 1.27 mm)
pins: 1 I4 (in), 2 I5 (in), 3 I6 (in), 4 I7 (in), 5 EI (in), 6 A2 (out), 7 A1 (out), 8 GND (power), 9 A0 (out), 10 I0 (in), 11 I1 (in), 12 I2 (in), 13 I3 (in), 14 GS (out), 15 EO (out), 16 VCC (power)

## 贴片芯片 74HC154
designator U?, comment 74HC154
单位: 片; 名称: 芯片; 封装: SSOP24
footprint SSOP24
pins: 1 ~{Y0}, 2 ~{Y1}, 3 ~{Y2}, 4 ~{Y3}, 5 ~{Y4}, 6 ~{Y5}, 7 ~{Y6}, 8 ~{Y7}, 9 ~{Y8}, 10 ~{Y9}, 11 ~{Y10}, 12 GND, 13 ~{Y11}, 14 ~{Y12}, 15 ~{Y13}, 16 ~{Y14}, 17 ~{Y15}, 18 ~{E0}, 19 ~{E1}, 20 A3, 21 A2, 22 A1, 23 A0, 24 VCC

## 贴片芯片 74HC165
designator U?, comment 74HC165
名称: 贴片芯片; 封装: SOIC16; 单位: 个
footprint SOIC16 (Small Outline; 16 Leads; Body Width 3.9 mm; Pitch 1.27 mm)
pins: 1 S/L (in), 2 CLK (in), 3 E (in), 4 F (in), 5 G (in), 6 H (in), 7 ~{QH} (out), 8 GND (power), 9 QH (out), 10 SI (in), 11 A (in), 12 B (in), 13 C (in), 14 D (in), 15 CLK INH (in), 16 VCC (power)

## 贴片芯片 74HC244
designator U?, comment 74HC244
单位: 片; 封装: SO-20; 名称: 贴片芯片
footprint SO20
pins: 1 ~{EA}, 2 HA, 3 O1B, 4 I2A, 5 O2B, 6 I3A, 7 O3B, 8 I4A, 9 O4B, 10 GND, 11 I4B, 12 O4A, 13 I3B, 14 O3A, 15 I2B, 16 O2A, 17 I1B, 18 O1A, 19 ~{EB}, 20 VCC

## 贴片芯片 74HC245
designator U?, comment 74HC245
单位: 片; 封装: SO-20; 名称: 贴片芯片
footprint SO20
pins: 1 DIR, 2 A0, 3 A1, 4 A2, 5 A3, 6 A4, 7 A5, 8 A6, 9 A7, 10 GND, 11 B7, 12 B6, 13 B5, 14 B4, 15 B3, 16 B2, 17 B1, 18 B0, 19 ~{OE}, 20 VCC

## 贴片芯片 74HC595
designator U?, comment 74HC595
单位: 片; 封装: SOIC16; 名称: 芯片
footprint SOIC16 (Small Outline; 16 Leads; Body Width 3.9 mm; Pitch 1.27 mm)
pins: 1 O1 (hiz), 2 O2 (hiz), 3 O3 (hiz), 4 O4 (hiz), 5 O5 (hiz), 6 O6 (hiz), 7 O7 (hiz), 8 GND, 9 Q7 (out), 10 ~{SRCL}R (in), 11 SRCLK (in), 12 RCLK (in), 13 E (in), 14 SER (in), 15 O0 (hiz), 16 VCC

## 贴片芯片 74HC4051
designator U?, comment 74HC4051
单位: 片; 封装: SOIC16; 名称: 贴片芯片
footprint SOIC16 (Small Outline; 16 Leads; Body Width 3.9 mm; Pitch 1.27 mm)
pins: 1 X4, 2 X6, 3 COM (hiz), 4 X7, 5 X5, 6 ~{E}, 7 VEE, 8 GND, 9 C, 10 B, 11 A, 12 X3, 13 X0, 14 X1, 15 X2, 16 VCC

## 贴片芯片 74HC4052
designator U?, comment 74HC4052
名称: 贴片芯片; 封装: SOIC16; 单位: 个
footprint SOIC16 (Small Outline; 16 Leads; Body Width 3.9 mm; Pitch 1.27 mm)
pins: 1 Y0 (io), 2 Y2 (io), 3 Y (io), 4 Y3 (io), 5 Y1 (io), 6 ~{EN} (in), 7 VEE (power), 8 GND (power), 9 B (in), 10 A (in), 11 X3 (io), 12 X0 (io), 13 X (io), 14 X1 (io), 15 X2 (io), 16 VCC (power)

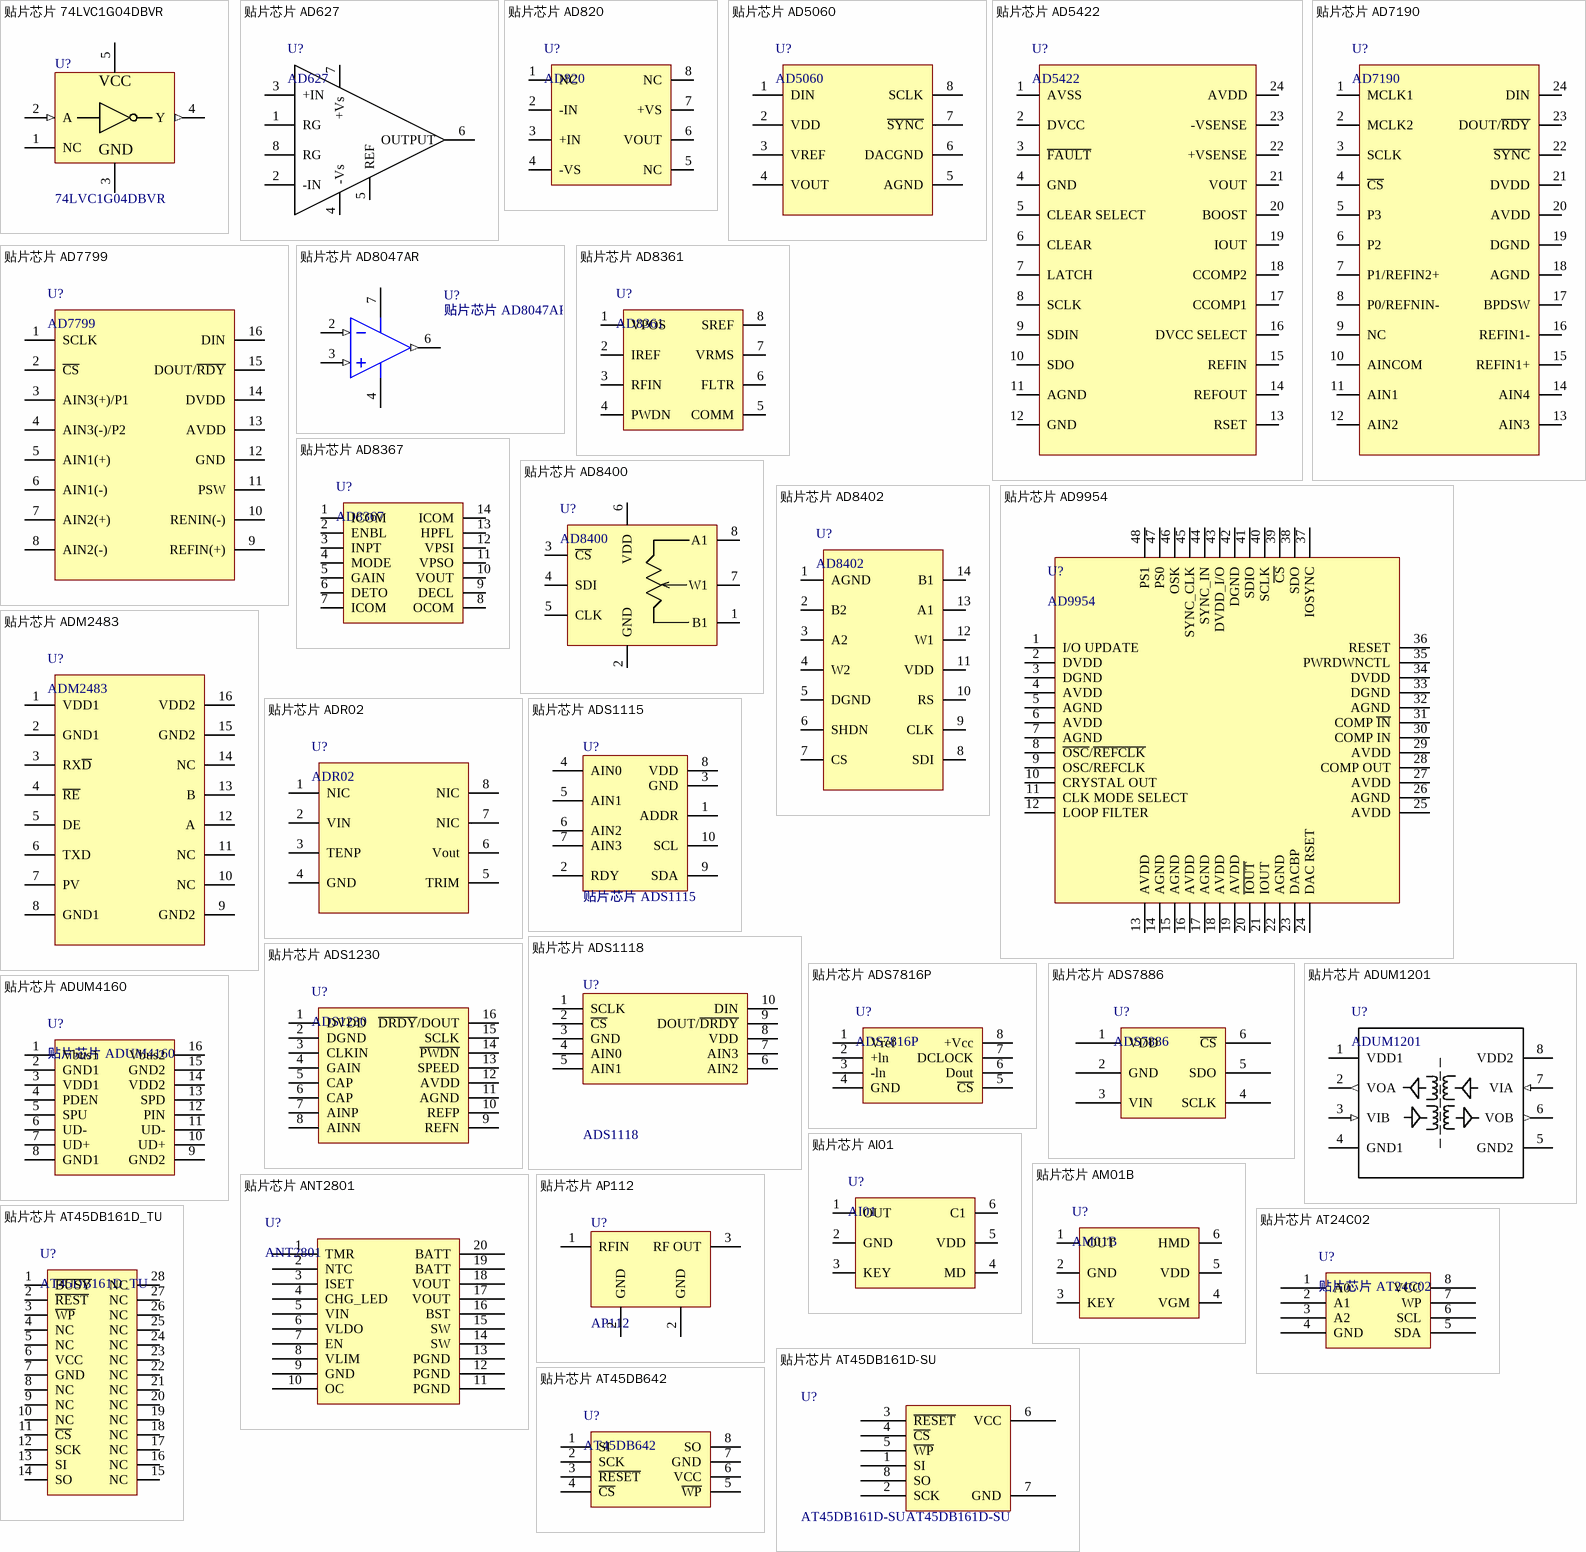
[diagram p12: symbols 贴片芯片 74LVC1G04DBVR to 贴片芯片 AT45DB642]

## 贴片芯片 74LVC1G04DBVR
designator U?, comment 74LVC1G04DBVR
信号反向器; 名称: 芯片; 封装: SOT23-5; 单位: 个
footprint SOT23-5
pins: 1 NC, 2 A (in), 3 GND, 4 Y (out), 5 VCC
2 alternate drawings of the same symbol

## 贴片芯片 AD627
designator U?, comment AD627
单位: 片; 封装: SOIC8; 名称: AD627
footprint SOIC8
pins: 1 RG, 2 -IN, 3 +IN, 4 -Vs, 5 REF, 6 OUTPUT, 7 +Vs, 8 RG

## 贴片芯片 AD820
designator U?, comment AD820
单位: 片; 封装: SOIC8; 名称: 贴片芯片
footprint SOIC8
pins: 1 NC, 2 -IN, 3 +IN, 4 -VS, 5 NC, 6 VOUT, 7 +VS, 8 NC

## 贴片芯片 AD5060
designator U?, comment AD5060
DAC 16bit; 单位: 片; 封装: SOT23-8; 名称: 芯片
footprint SOT23-8 (Footprint not found)
pins: 1 DIN, 2 VDD, 3 VREF, 4 VOUT, 5 AGND, 6 DACGND, 7 ~{SYNC}, 8 SCLK

## 贴片芯片 AD5422
designator U?, comment AD5422
DAC; 单位: 片; 封装: ssop24; 名称: 芯片
footprint ssop24
pins: 1 AVSS, 2 DVCC, 3 ~{FAULT}, 4 GND, 5 CLEAR SELECT, 6 CLEAR, 7 LATCH, 8 SCLK, 9 SDIN, 10 SDO, 11 AGND, 12 GND, 13 RSET, 14 REFOUT, 15 REFIN, 16 DVCC SELECT, 17 CCOMP1, 18 CCOMP2, 19 IOUT, 20 BOOST, 21 VOUT, 22 +VSENSE, 23 -VSENSE, 24 AVDD

## 贴片芯片 AD7190
designator U?, comment AD7190
单位: 片; 封装: TSSOP20; 名称: AD627
footprint TSSOP20 (Shrink Small Outline; 20 Leads; Body Width 4.4 mm; Pitch 0.65 mm)
pins: 1 MCLK1, 2 MCLK2, 3 SCLK, 4 ~{CS}, 5 P3, 6 P2, 7 P1/REFIN2+, 8 P0/REFNIN-, 9 NC, 10 AINCOM, 11 AIN1, 12 AIN2, 13 AIN3, 14 AIN4, 15 REFIN1+, 16 REFIN1-, 17 BPDSW, 18 AGND, 19 DGND, 20 AVDD, 21 DVDD, 22 ~{SYNC}, 23 DOUT/~{RDY}, 24 DIN

## 贴片芯片 AD7799
designator U?, comment AD7799
单位: 片; 封装: TSSOP16; 名称: AD627
footprint TSSOP16 (Shrink Small Outline; 20 Leads; Body Width 4.4 mm; Pitch 0.65 mm)
pins: 1 SCLK, 2 ~{CS}, 3 AIN3(+)/P1, 4 AIN3(-)/P2, 5 AIN1(+), 6 AIN1(-), 7 AIN2(+), 8 AIN2(-), 9 REFIN(+), 10 RENIN(-), 11 PSW, 12 GND, 13 AVDD, 14 DVDD, 15 DOUT/~{RDY}, 16 DIN

## 贴片芯片 AD8047AR
designator U?
250MHz, General Purpose Voltage Feedback Operational Amplifier; 单位: 片; 封装: SOIC8; 名称: 贴片芯片
footprint R-8D_N (SOIC, 8-Leads, Body 4.9x3.9mm, Pitch 1.27mm, IPC Medium Density)
footprint R-8D_L (SOIC, 8-Leads, Body 4.9x3.9mm, Pitch 1.27mm, IPC High Density)
footprint SOIC8
pins: 1 NC hidden, 2 IN- (in), 3 IN+ (in), 4 V- (power), 5 NC hidden, 6 OUT (out), 7 V+ (power), 8 NC hidden

## 贴片芯片 AD8361
designator U?, comment AD8361
单位: 片; 封装: SOIC8; 名称: 贴片芯片
footprint SOIC8
pins: 1 VPOS, 2 IREF, 3 RFIN, 4 PWDN, 5 COMM, 6 FLTR, 7 VRMS, 8 SREF

## 贴片芯片 AD8367
designator U?, comment AD8367
单位: 片; 封装: ssop14; 名称: 贴片芯片
footprint tssop14 (Shrink Small Outline; 20 Leads; Body Width 4.4 mm; Pitch 0.65 mm)
pins: 1 ICOM, 2 ENBL, 3 INPT, 4 MODE, 5 GAIN, 6 DETO, 7 ICOM, 8 OCOM, 9 DECL, 10 VOUT, 11 VPSO, 12 VPSI, 13 HPFL, 14 ICOM

## 贴片芯片 AD8400
designator U?, comment AD8400
数字电位器; 单位: 片; 封装: SOIC8; 名称: 贴片芯片
footprint SOIC8
pins: 1 B1, 2 GND, 3 ~{CS}, 4 SDI, 5 CLK, 6 VDD, 7 W1, 8 A1

## 贴片芯片 AD8402
designator U?, comment AD8402
数字电位器; 单位: 片; 封装: SOIC14; 名称: 贴片芯片
footprint SOIC14 (Footprint not found)
pins: 1 AGND, 2 B2, 3 A2, 4 W2, 5 DGND, 6 SHDN, 7 CS, 8 SDI, 9 CLK, 10 RS, 11 VDD, 12 W1, 13 A1, 14 B1

## 贴片芯片 AD9954
designator U?, comment AD9954
DDS; 单位: 片; 封装: TQFP48; 名称: AD9954
footprint TQFP48
pins: 1 I/O UPDATE, 2 DVDD, 3 DGND, 4 AVDD, 5 AGND, 6 AVDD, 7 AGND, 8 ~{OSC}/~{REFCLK}, 9 OSC/REFCLK, 10 CRYSTAL OUT, 11 CLK MODE SELECT, 12 LOOP FILTER, 13 AVDD, 14 AGND, 15 AGND, 16 AVDD, 17 AGND, 18 AVDD, 19 AVDD, 20 ~{IOUT}, 21 IOUT, 22 AGND, 23 DACBP, 24 DAC RSET, 25 AVDD, 26 AGND, 27 AVDD, 28 COMP OUT, 29 AVDD, 30 COMP IN, 31 COMP ~{IN}, 32 AGND, 33 DGND, 34 DVDD, 35 PWRDWNCTL, 36 RESET, 37 IOSYNC, 38 SDO, 39 ~{CS}, 40 SCLK, 41 SDIO, 42 DGND, 43 DVDD_I/O, 44 SYNC_IN, 45 SYNC_CLK, 46 OSK, 47 PS0, 48 PS1

## 贴片芯片 ADM2483
designator U?, comment ADM2483
485隔离芯片; 名称: 贴片芯片; 单位: 片; 封装: SOIC16W
footprint SOIC16-F
pins: 1 VDD1, 2 GND1, 3 RX~{D}, 4 ~{RE}, 5 DE, 6 TXD, 7 PV, 8 GND1, 9 GND2, 10 NC, 11 NC, 12 A, 13 B, 14 NC, 15 GND2, 16 VDD2

## 贴片芯片 ADR02
designator U?, comment ADR02
单位: 片; 封装: SOIC8; 名称: ADR02
footprint SOIC8
pins: 1 NIC, 2 VIN, 3 TENP, 4 GND, 5 TRIM, 6 Vout, 7 NIC, 8 NIC

## 贴片芯片 ADS1115
designator U?
单位: 片; 封装: MSOP10; 名称: 贴片芯片
footprint MSOP10
pins: 1 ADDR, 2 RDY, 3 GND, 4 AIN0, 5 AIN1, 6 AIN2, 7 AIN3, 8 VDD, 9 SDA, 10 SCL

## 贴片芯片 ADS1118
designator U?, comment ADS1118
单位: 片; 封装: MSOP10; 名称: 贴片芯片
footprint MSOP10
pins: 1 SCLK, 2 ~{CS}, 3 GND, 4 AIN0, 5 AIN1, 6 AIN2, 7 AIN3, 8 VDD, 9 DOUT/~{DRDY}, 10 DIN

## 贴片芯片 ADS1230
designator U?, comment ADS1230
单位: 片; 封装: TSSOP16; 名称: 贴片芯片
footprint TSSOP16 (Shrink Small Outline; 20 Leads; Body Width 4.4 mm; Pitch 0.65 mm)
pins: 1 DVDD, 2 DGND, 3 CLKIN, 4 GAIN, 5 CAP, 6 CAP, 7 AINP, 8 AINN, 9 REFN, 10 REFP, 11 AGND, 12 AVDD, 13 SPEED, 14 ~{PWDN}, 15 SCLK, 16 ~{DRDY}/DOUT

## 贴片芯片 ADS7816P
designator U?, comment ADS7816P
单位: 片; 封装: SOIC8; 名称: ADS7816P 12位A/D芯片
footprint DIP8 (DIP; 8 Leads; Row Spacing 7.62 mm; Pitch 2.54 mm)
pins: 1 Vref, 2 +ln, 3 -ln, 4 GND, 5 ~{CS}, 6 Dout, 7 DCLOCK, 8 +Vcc

## 贴片芯片 ADS7886
designator U?, comment ADS7886
单位: 片; 封装: sot23
footprint SOT23-6
pins: 1 VDD, 2 GND, 3 VIN, 4 SCLK, 5 SDO, 6 ~{CS}

## 贴片芯片 ADUM1201
designator U?, comment ADUM1201
名称: 贴片芯片; 封装: SOIC8; 单位: 片
footprint SOIC8
pins: 1 VDD1, 2 VOA (out), 3 VIB (in), 4 GND1, 5 GND2, 6 VOB (out), 7 VIA (in), 8 VDD2

## 贴片芯片 ADUM4160
designator U?
封装: SSOP16; 单位: 片; 名称: 贴片芯片
footprint SSOP16
pins: 1 Vbus1, 2 GND1, 3 VDD1, 4 PDEN, 5 SPU, 6 UD-, 7 UD+, 8 GND1, 9 GND2, 10 UD+, 11 UD-, 12 PIN, 13 SPD, 14 VDD2, 15 GND2, 16 Vbus2

## 贴片芯片 AI01
designator U?, comment AI01
触摸芯片; 名称: 贴片芯片; 封装: SOT23-6; 单位: 个
footprint SOT23-6
pins: 1 OUT, 2 GND, 3 KEY, 4 MD, 5 VDD, 6 C1

## 贴片芯片 AM01B
designator U?, comment AM01B
触摸芯片; 名称: 贴片芯片; 封装: SOT23-6; 单位: 个
footprint SOT23-6
pins: 1 OUT, 2 GND, 3 KEY, 4 VGM, 5 VDD, 6 HMD

## 贴片芯片 ANT2801
designator U?, comment ANT2801
单位: 片; 封装: SSOP20; 名称: 贴片芯片
footprint SSOP20
pins: 1 TMR, 2 NTC, 3 ISET, 4 CHG_LED, 5 VIN, 6 VLDO, 7 EN, 8 VLIM, 9 GND, 10 OC, 11 PGND, 12 PGND, 13 PGND, 14 SW, 15 SW, 16 BST, 17 VOUT, 18 VOUT, 19 BATT, 20 BATT

## 贴片芯片 AP112
designator U?, comment AP112
名称: 贴片芯片; 封装: SOT223; 单位: 个
footprint SOT89
pins: 1 RFIN, 2 GND, 2 GND, 3 RF OUT

## 贴片芯片 AT24C02
designator U?
单位: 片; 封装: SOIC4; 名称: 贴片芯片
footprint SO8-W
pins: 1 A0, 2 A1, 3 A2, 4 GND, 5 SDA, 6 SCL, 7 WP, 8 VCC

## 贴片芯片 AT45DB161D-SU
designator U?, comment AT45DB161D-SU
名称: 贴片芯片; 封装: SOIC8; 单位: 个
footprint SO8-W
pins: 1 SI, 2 SCK, 3 ~{RESET}, 4 ~{CS}, 5 ~{WP}, 6 VCC, 7 GND, 8 SO

## 贴片芯片 AT45DB161D_TU
designator U?, comment AT45DB161D_TU
单位: 个; 封装: TSOP28; 名称: 贴片芯片
footprint TSOP28
pins: 1 ~{BUSY}, 2 ~{REST}, 3 ~{WP}, 4 NC, 5 NC, 6 VCC, 7 GND, 8 NC, 9 NC, 10 NC, 11 ~{CS}, 12 SCK, 13 SI, 14 SO, 15 NC, 16 NC, 17 NC, 18 NC, 19 NC, 20 NC, 21 NC, 22 NC, 23 NC, 24 NC, 25 NC, 26 NC, 27 NC, 28 NC

## 贴片芯片 AT45DB642
designator U?, comment AT45DB642
单位: 个; 封装: VQFN8; 名称: 贴片芯片
footprint SO8
pins: 1 SI, 2 SCK, 3 ~{RESET}, 4 ~{CS}, 5 ~{WP}, 6 VCC, 7 GND, 8 SO

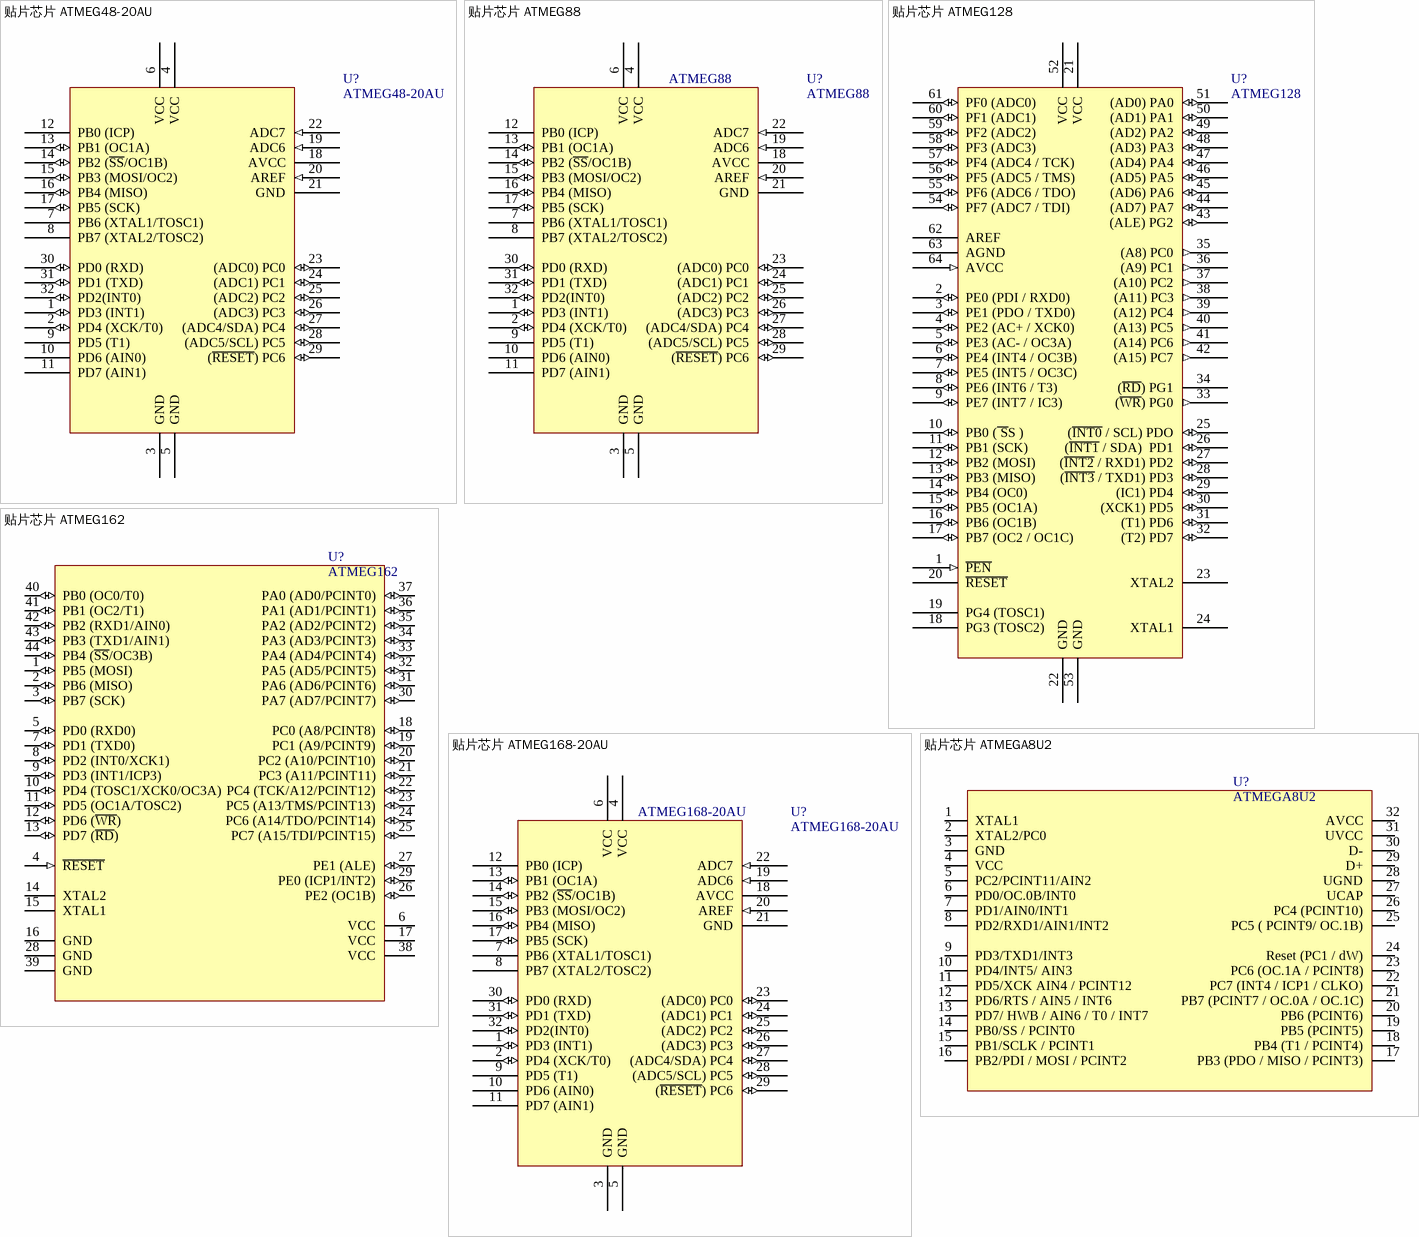
[diagram p13: symbols 贴片芯片 ATMEG48-20AU to 贴片芯片 ATMEGA8U2]

## 贴片芯片 ATMEG48-20AU
designator U?, comment ATMEG48-20AU
名称: 贴片芯片; 封装: TQFP32; 单位: 个
footprint TQFP32
pins: 1 PD3 (INT1) (io), 2 PD4 (XCK/T0) (io), 3 GND, 4 VCC (power), 5 GND (power), 6 VCC, 7 PB6 (XTAL1/TOSC1), 8 PB7 (XTAL2/TOSC2), 9 PD5 (T1), 10 PD6 (AIN0), 11 PD7 (AIN1), 12 PB0 (ICP), 13 PB1 (OC1A) (io), 14 PB2 (~{SS}/OC1B) (io), 15 PB3 (MOSI/OC2) (io), 16 PB4 (MISO) (io), 17 PB5 (SCK) (io), 18 AVCC, 19 ADC6 (in), 20 AREF (in), 21 GND, 22 ADC7 (in), 23 (ADC0) PC0 (io), 24 (ADC1) PC1 (io), 25 (ADC2) PC2 (io), 26 (ADC3) PC3 (io), 27 (ADC4/SDA) PC4 (io), 28 (ADC5/SCL) PC5 (io), 29 (~{RESET}) PC6 (io), 30 PD0 (RXD) (io), 31 PD1 (TXD) (io), 32 PD2(INT0) (io)

## 贴片芯片 ATMEG88
designator U?, comment ATMEG88
名称: 贴片芯片; 封装: TQFP32; 单位: 个
footprint TQFP32
pins: 1 PD3 (INT1) (io), 2 PD4 (XCK/T0) (io), 3 GND, 4 VCC (power), 5 GND (power), 6 VCC, 7 PB6 (XTAL1/TOSC1), 8 PB7 (XTAL2/TOSC2), 9 PD5 (T1), 10 PD6 (AIN0), 11 PD7 (AIN1), 12 PB0 (ICP), 13 PB1 (OC1A) (io), 14 PB2 (~{SS}/OC1B) (io), 15 PB3 (MOSI/OC2) (io), 16 PB4 (MISO) (io), 17 PB5 (SCK) (io), 18 AVCC, 19 ADC6 (in), 20 AREF (in), 21 GND, 22 ADC7 (in), 23 (ADC0) PC0 (io), 24 (ADC1) PC1 (io), 25 (ADC2) PC2 (io), 26 (ADC3) PC3 (io), 27 (ADC4/SDA) PC4 (io), 28 (ADC5/SCL) PC5 (io), 29 (~{RESET}) PC6 (io), 30 PD0 (RXD) (io), 31 PD1 (TXD) (io), 32 PD2(INT0) (io)

## 贴片芯片 ATMEG128
designator U?, comment ATMEG128
名称: 贴片芯片; 封装: TQFP64; 单位: 个
footprint TQFP64 (QFP, Thin; 64 Leads; Body 10 x 10 mm; Pitch 0.5 mm)
pins: 1 ~{PEN} (in), 2 PE0 (PDI / RXD0) (io), 3 PE1 (PDO / TXD0) (io), 4 PE2 (AC+ / XCK0) (io), 5 PE3 (AC- / OC3A) (io), 6 PE4 (INT4 / OC3B) (io), 7 PE5 (INT5 / OC3C) (io), 8 PE6 (INT6 / T3) (io), 9 PE7 (INT7 / IC3) (io), 10 PB0 (~{ S}S ) (io), 11 PB1 (SCK) (io), 12 PB2 (MOSI) (io), 13 PB3 (MISO) (io), 14 PB4 (OC0) (io), 15 PB5 (OC1A) (io), 16 PB6 (OC1B) (io), 17 PB7 (OC2 / OC1C) (io), 18 PG3 (TOSC2), 19 PG4 (TOSC1), 20 ~{RESET}, 21 VCC (power), 22 GND (power), 23 XTAL2, 24 XTAL1, 25 (~{INT0} / SCL) PDO (io), 26 (~{INT1} / SDA)  PD1 (io), 27 (~{INT2} / RXD1) PD2 (io), 28 (~{INT3} / TXD1) PD3 (io), 29 (IC1) PD4 (io), 30 (XCK1) PD5 (io), 31 (T1) PD6 (io), 32 (T2) PD7 (io), 33 (~{WR}) PG0 (out), 34 (~{RD}) PG1, 35 (A8) PC0 (out), 36 (A9) PC1 (out), 37 (A10) PC2 (out), 38 (A11) PC3 (out), 39 (A12) PC4 (out), 40 (A13) PC5 (out), 41 (A14) PC6 (out), 42 (A15) PC7 (out), 43 (ALE) PG2 (io), 44 (AD7) PA7 (io), 45 (AD6) PA6 (io), 46 (AD5) PA5 (io), 47 (AD4) PA4 (io), 48 (AD3) PA3 (io), 49 (AD2) PA2 (io), 50 (AD1) PA1 (io), 51 (AD0) PA0 (io), 52 VCC (power), 53 GND (power), 54 PF7 (ADC7 / TDI) (io), 55 PF6 (ADC6 / TDO) (io), 56 PF5 (ADC5 / TMS) (io), 57 PF4 (ADC4 / TCK) (io), 58 PF3 (ADC3) (io), 59 PF2 (ADC2) (io), 60 PF1 (ADC1) (io), 61 PF0 (ADC0) (io), 62 AREF, 63 AGND, 64 AVCC (in)

## 贴片芯片 ATMEG162
designator U?, comment ATMEG162
名称: 贴片芯片; 封装: TQFP44; 单位: 个
footprint TQFP44
pins: 1 PB5 (MOSI) (io), 2 PB6 (MISO) (io), 3 PB7 (SCK) (io), 4 ~{RESET} (in), 5 PD0 (RXD0) (io), 6 VCC (power), 7 PD1 (TXD0) (io), 8 PD2 (INT0/XCK1) (io), 9 PD3 (INT1/ICP3) (io), 10 PD4 (TOSC1/XCK0/OC3A) (io), 11 PD5 (OC1A/TOSC2) (io), 12 PD6 (~{WR}) (io), 13 PD7 (~{RD}) (io), 14 XTAL2, 15 XTAL1, 16 GND (power), 17 VCC (power), 18 PC0 (A8/PCINT8) (io), 19 PC1 (A9/PCINT9) (io), 20 PC2 (A10/PCINT10) (io), 21 PC3 (A11/PCINT11) (io), 22 PC4 (TCK/A12/PCINT12) (io), 23 PC5 (A13/TMS/PCINT13) (io), 24 PC6 (A14/TDO/PCINT14) (io), 25 PC7 (A15/TDI/PCINT15) (io), 26 PE2 (OC1B) (io), 27 PE1 (ALE) (io), 28 GND (power), 29 PE0 (ICP1/INT2) (io), 30 PA7 (AD7/PCINT7) (io), 31 PA6 (AD6/PCINT6) (io), 32 PA5 (AD5/PCINT5) (io), 33 PA4 (AD4/PCINT4) (io), 34 PA3 (AD3/PCINT3) (io), 35 PA2 (AD2/PCINT2) (io), 36 PA1 (AD1/PCINT1) (io), 37 PA0 (AD0/PCINT0) (io), 38 VCC (power), 39 GND (power), 40 PB0 (OC0/T0) (io), 41 PB1 (OC2/T1) (io), 42 PB2 (RXD1/AIN0) (io), 43 PB3 (TXD1/AIN1) (io), 44 PB4 (~{SS}/OC3B) (io)

## 贴片芯片 ATMEG168-20AU
designator U?, comment ATMEG168-20AU
名称: 贴片芯片; 封装: TQFP32; 单位: 个
footprint TQFP32
pins: 1 PD3 (INT1) (io), 2 PD4 (XCK/T0) (io), 3 GND, 4 VCC (power), 5 GND (power), 6 VCC, 7 PB6 (XTAL1/TOSC1), 8 PB7 (XTAL2/TOSC2), 9 PD5 (T1), 10 PD6 (AIN0), 11 PD7 (AIN1), 12 PB0 (ICP), 13 PB1 (OC1A) (io), 14 PB2 (~{SS}/OC1B) (io), 15 PB3 (MOSI/OC2) (io), 16 PB4 (MISO) (io), 17 PB5 (SCK) (io), 18 AVCC, 19 ADC6 (in), 20 AREF (in), 21 GND, 22 ADC7 (in), 23 (ADC0) PC0 (io), 24 (ADC1) PC1 (io), 25 (ADC2) PC2 (io), 26 (ADC3) PC3 (io), 27 (ADC4/SDA) PC4 (io), 28 (ADC5/SCL) PC5 (io), 29 (~{RESET}) PC6 (io), 30 PD0 (RXD) (io), 31 PD1 (TXD) (io), 32 PD2(INT0) (io)

## 贴片芯片 ATMEGA8U2
designator U?, comment ATMEGA8U2
名称: 贴片芯片; 封装: QFN32; 单位: 个
footprint QFN32
pins: 1 XTAL1, 2 XTAL2/PC0, 3 GND, 4 VCC, 5 PC2/PCINT11/AIN2, 6 PD0/OC.0B/INT0, 7 PD1/AIN0/INT1, 8 PD2/RXD1/AIN1/INT2, 9 PD3/TXD1/INT3, 10 PD4/INT5/ AIN3 , 11 PD5/XCK AIN4 / PCINT12, 12 PD6/RTS / AIN5 / INT6, 13 PD7/ HWB / AIN6 / T0 / INT7, 14 PB0/SS / PCINT0, 15 PB1/SCLK / PCINT1, 16 PB2/PDI / MOSI / PCINT2, 17 PB3 (PDO / MISO / PCINT3), 18 PB4 (T1 / PCINT4), 19 PB5 (PCINT5), 20 PB6 (PCINT6), 21 PB7 (PCINT7 / OC.0A / OC.1C), 22 PC7 (INT4 / ICP1 / CLKO), 23 PC6 (OC.1A / PCINT8), 24 Reset (PC1 / dW), 25 PC5 ( PCINT9/ OC.1B), 26 PC4 (PCINT10), 27 UCAP, 28 UGND, 29 D+, 30 D-, 31 UVCC, 32 AVCC

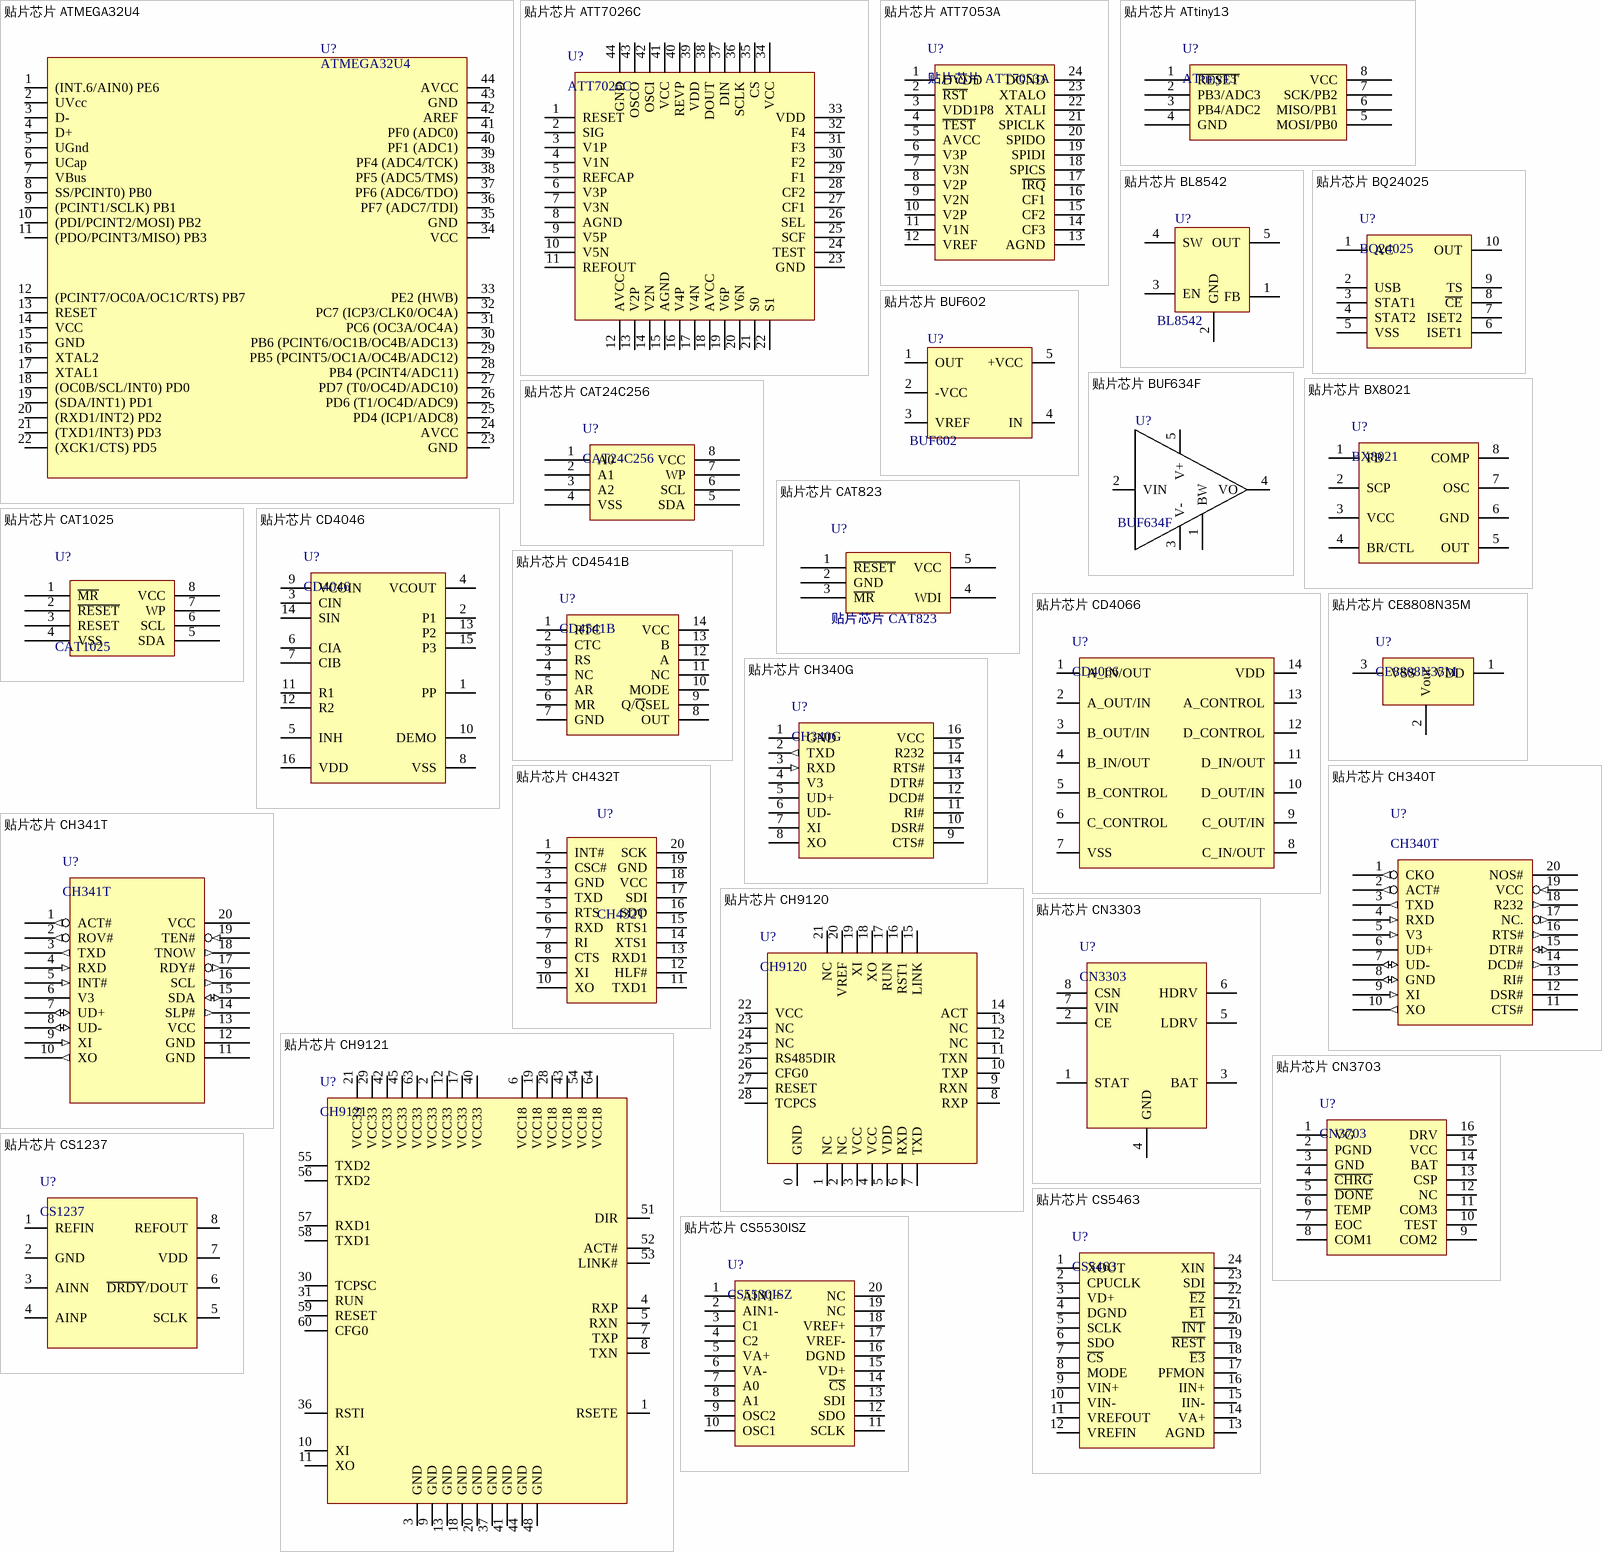
[diagram p14: symbols 贴片芯片 ATMEGA32U4 to 贴片芯片 CS5530ISZ]

## 贴片芯片 ATMEGA32U4
designator U?, comment ATMEGA32U4
名称: 贴片芯片; 封装: TQFP44; 单位: 个
footprint TQFP44
pins: 1 (INT.6/AIN0) PE6, 2 UVcc, 3 D-, 4 D+, 5 UGnd, 6 UCap, 7 VBus, 8 SS/PCINT0) PB0, 9 (PCINT1/SCLK) PB1, 10 (PDI/PCINT2/MOSI) PB2, 11 (PDO/PCINT3/MISO) PB3, 12 (PCINT7/OC0A/OC1C/RTS) PB7, 13 RESET, 14 VCC, 15 GND, 16 XTAL2, 17 XTAL1, 18 (OC0B/SCL/INT0) PD0, 19 (SDA/INT1) PD1, 20 (RXD1/INT2) PD2, 21 (TXD1/INT3) PD3, 22 (XCK1/CTS) PD5, 23 GND, 24 AVCC, 25 PD4 (ICP1/ADC8), 26 PD6 (T1/OC4D/ADC9), 27 PD7 (T0/OC4D/ADC10), 28 PB4 (PCINT4/ADC11), 29 PB5 (PCINT5/OC1A/OC4B/ADC12), 30 PB6 (PCINT6/OC1B/OC4B/ADC13), 31 PC6 (OC3A/OC4A), 32 PC7 (ICP3/CLK0/OC4A), 33 PE2 (HWB), 34 VCC, 35 GND, 36 PF7 (ADC7/TDI), 37 PF6 (ADC6/TDO), 38 PF5 (ADC5/TMS), 39 PF4 (ADC4/TCK), 40 PF1 (ADC1), 41 PF0 (ADC0), 42 AREF, 43 GND, 44 AVCC

## 贴片芯片 ATT7026C
designator U?, comment ATT7026C
封转: QFP48; 单位: 片; 名称: 贴片芯片
footprint QFP44
pins: 1 RESET, 2 SIG, 3 V1P, 4 V1N, 5 REFCAP, 6 V3P, 7 V3N, 8 AGND, 9 V5P, 10 V5N, 11 REFOUT, 12 AVCC, 13 V2P, 14 V2N, 15 AGND, 16 V4P, 17 V4N, 18 AVCC, 19 V6P, 20 V6N, 21 S0, 22 S1, 23 GND, 24 TEST, 25 SCF, 26 SEL, 27 CF1, 28 CF2, 29 F1, 30 F2, 31 F3, 32 F4, 33 VDD, 34 VCC, 35 CS, 36 SCLK, 37 DIN, 38 DOUT, 39 VDD, 40 REVP, 41 VCC, 42 OSCI, 43 OSCO, 44 GND

## 贴片芯片 ATT7053A
designator U?
单位: 片; 封装: *; 名称: 贴片芯片
footprint SSOP24
pins: 1 DVDD, 2 ~{RST}, 3 VDD1P8, 4 ~{TEST}, 5 AVCC, 6 V3P, 7 V3N, 8 V2P, 9 V2N, 10 V2P, 11 V1N, 12 VREF, 13 AGND, 14 CF3, 15 CF2, 16 CF1, 17 ~{IRQ}, 18 SPICS, 19 SPIDI, 20 SPIDO, 21 SPICLK, 22 XTALI, 23 XTALO, 24 DGND

## 贴片芯片 ATtiny13
designator U?, comment ATtiny13
单位: 片; 封装: SOIC8; 名称: 贴片芯片
footprint SO8-W
pins: 1 ~{RESET}, 2 PB3/ADC3, 3 PB4/ADC2, 4 GND, 5 MOSI/PB0, 6 MISO/PB1, 7 SCK/PB2, 8 VCC

## 贴片芯片 BL8542
designator U?, comment BL8542
单位: 个; 封装: SOT23-5; 名称: 贴片芯片
footprint SOT-23-5
pins: 1 FB, 2 GND (power), 3 EN (power), 4 SW (power), 5 OUT

## 贴片芯片 BQ24025
designator U?, comment BQ24025
封装: QFN10; 名称: 贴片芯片
footprint MLP 3*3mm
pins: 1 AC, 2 USB, 3 STAT1, 4 STAT2, 5 VSS, 6 ISET1, 7 ISET2, 8 ~{CE}, 9 TS, 10 OUT

## 贴片芯片 BUF602
designator U?, comment BUF602
单位: 个; 封装: SOT23-5; 名称: 贴片芯片
footprint SOT23-5
pins: 1 OUT, 2 -VCC, 3 VREF, 4 IN, 5 +VCC

## 贴片芯片 BUF634F
designator U?, comment BUF634F
单位: 个; 封装: T0220; 名称: 贴片芯片
footprint TO263 LM2576
pins: 1 BW, 2 VIN, 3 V-, 4 VO, 5 V+

## 贴片芯片 BX8021
designator U?, comment BX8021
名称: 贴片芯片; 封装: TSSOP8; 单位: 片
footprint TSSOP8
pins: 1 FB, 2 SCP, 3 VCC, 4 BR/CTL, 5 OUT, 6 GND, 7 OSC, 8 COMP

## 贴片芯片 CAT24C256
designator U?, comment CAT24C256
单位: 片; 名称: 贴片芯片; 封装: *
footprint SO8-W
pins: 1 A0, 2 A1, 3 A2, 4 VSS, 5 SDA, 6 SCL, 7 WP, 8 VCC

## 贴片芯片 CAT823
designator U?
名称: 复位芯片; 封装: TSOT-23-5; 单位: 个
footprint TSOT-23-5 (Footprint not found)
pins: 1 ~{RESET}, 2 GND, 3 ~{MR}, 4 WDI, 5 VCC

## 贴片芯片 CAT1025
designator U?, comment CAT1025
名称: 贴片芯片; 封装: SOIC8; 单位: 个
footprint SO8
pins: 1 ~{MR}, 2 ~{RESET}, 3 RESET, 4 VSS, 5 SDA, 6 SCL, 7 WP, 8 VCC

## 贴片芯片 CD4046
designator U?, comment CD4046
单位: 个; 封装: SOIC14; 名称: 贴片芯片
footprint SOIC16 (Small Outline; 16 Leads; Body Width 3.9 mm; Pitch 1.27 mm)
pins: 1 PP, 2 P1, 3 CIN, 4 VCOUT, 5 INH, 6 CIA, 7 CIB, 8 VSS, 9 VCOIN, 10 DEMO, 11 R1, 12 R2, 13 P2, 14 SIN, 15 P3, 16 VDD

## 贴片芯片 CD4066
designator U?, comment CD4066
4通道双向开关; 单位: 个; 封装: SOIC14; 名称: 贴片芯片
footprint SOIC16 (Small Outline; 16 Leads; Body Width 3.9 mm; Pitch 1.27 mm)
pins: 1 A_IN/OUT, 2 A_OUT/IN, 3 B_OUT/IN, 4 B_IN/OUT, 5 B_CONTROL, 6 C_CONTROL, 7 VSS, 8 C_IN/OUT, 9 C_OUT/IN, 10 D_OUT/IN, 11 D_IN/OUT, 12 D_CONTROL, 13 A_CONTROL, 14 VDD

## 贴片芯片 CD4541B
designator U?, comment CD4541B
单位: 个; 封装: SOIC14; 名称: 贴片芯片
footprint SOIC14 (Small Outline; 16 Leads; Body Width 3.9 mm; Pitch 1.27 mm)
pins: 1 RTC, 2 CTC, 3 RS, 4 NC, 5 AR, 6 MR, 7 GND, 8 OUT, 9 Q/~{Q}SEL, 10 MODE, 11 NC, 12 A, 13 B, 14 VCC

## 贴片芯片 CE8808N35M
designator U?, comment CE8808N35M
单位: 个; 封装: SOT23; 名称: 贴片芯片
footprint sot23b
pins: 1 VDD, 2 Vout, 3 VSS

## 贴片芯片 CH340G
designator U?, comment CH340G
单位: 片; 封装: SOIC16; 名称: 贴片芯片
footprint SOIC16 (Small Outline; 16 Leads; Body Width 3.9 mm; Pitch 1.27 mm)
pins: 1 GND, 2 TXD (out), 3 RXD (in), 4 V3, 5 UD+, 6 UD-, 7 XI, 8 XO, 9 CTS#, 10 DSR#, 11 RI#, 12 DCD#, 13 DTR#, 14 RTS#, 15 R232, 16 VCC

## 贴片芯片 CH340T
designator U?, comment CH340T
单位: 片; 封装: SSOP20; 名称: 贴片芯片
footprint SSOP20
pins: 1 CKO (out), 2 ACT# (out), 3 TXD (out), 4 RXD (in), 5 V3 (in), 6 UD+ (power), 7 UD- (io), 8 GND (io), 9 XI (in), 10 XO (out), 11 CTS# (power), 12 DSR# (power), 13 RI# (power), 14 DCD# (out), 15 DTR# (io), 16 RTS# (out), 17 NC. (out), 18 R232 (out), 19 VCC (in), 20 NOS# (power)

## 贴片芯片 CH341T
designator U?, comment CH341T
单位: 片; 名称: 贴片芯片; 封装: *
footprint SSOP20
pins: 1 ACT# (out), 2 ROV# (out), 3 TXD (out), 4 RXD (in), 5 INT# (in), 6 V3 (power), 7 UD+ (io), 8 UD- (io), 9 XI (in), 10 XO (out), 11 GND (power), 12 GND (power), 13 VCC (power), 14 SLP# (out), 15 SDA (io), 16 SCL (out), 17 RDY# (out), 18 TNOW (out), 19 TEN# (in), 20 VCC (power)

## 贴片芯片 CH432T
designator U?, comment CH432T
名称: 贴片芯片; 封装: SOT223; 单位: 个
footprint SSOP20
pins: 1 INT#, 2 CSC#, 3 GND, 4 TXD, 5 RTS, 6 RXD, 7 RI, 8 CTS, 9 XI, 10 XO, 11 TXD1, 12 HLF#, 13 RXD1, 14 XTS1, 15 RTS1, 16 SDO, 17 SDI, 18 VCC, 19 GND, 20 SCK

## 贴片芯片 CH9120
designator U?, comment CH9120
单位: 片; 名称: 贴片芯片; 封装: QFN28
footprint QFN28_4X4
pins: 0 GND, 1 NC, 2 NC, 3 VCC, 4 VCC, 5 VDD, 6 RXD, 7 TXD, 8 RXP, 9 RXN, 10 TXP, 11 TXN, 12 NC, 13 NC, 14 ACT, 15 LINK, 16 RST1, 17 RUN, 18 XO, 19 XI, 20 VREF, 21 NC, 22 VCC, 23 NC, 24 NC, 25 RS485DIR, 26 CFG0, 27 RESET, 28 TCPCS

## 贴片芯片 CH9121
designator U?, comment CH9121
名称: 贴片芯片; 封装: TQFP64; 单位: 片
footprint TQFP64 (QFP, Thin; 64 Leads; Body 10 x 10 mm; Pitch 0.5 mm)
pins: 1 RSETE, 2 VCC33, 3 GND, 4 RXP, 5 RXN, 6 VCC18, 7 TXP, 8 TXN, 9 GND, 10 XI, 11 XO, 12 VCC33, 13 GND, 14 NC hidden, 15 NC hidden, 16 NC hidden, 17 VCC33, 18 GND, 19 VCC18, 20 GND, 21 VCC33, 22 NC hidden, 23 NC hidden, 24 NC hidden, 25 NC hidden, 26 NC hidden, 27 NC hidden, 28 VCC18, 29 VCC33, 30 TCPSC, 31 RUN, 32 NC hidden, 33 NC hidden, 34 NC hidden, 35 NC hidden, 36 RSTI, 37 GND, 38 NC hidden, 39 NC hidden, 40 VCC33, 41 GND, 42 VCC33, 43 VCC18, 44 GND, 45 VCC33, 46 NC hidden, 47 NC hidden, 48 GND, 49 NC hidden, 50 NC hidden, 51 DIR, 52 ACT#, 53 LINK#, 54 VCC18, 55 TXD2, 56 TXD2, 57 RXD1, 58 TXD1, 59 RESET, 60 CFG0, 61 NC hidden, 62 NC hidden, 63 VCC33, 64 VCC18

## 贴片芯片 CN3303
designator U?, comment CN3303
3节18650电池充电; 名称: 芯片; 封装: SOIC8; 单位: 片
footprint SOIC8
pins: 1 STAT, 2 CE, 3 BAT, 4 GND, 5 LDRV, 6 HDRV, 7 VIN, 8 CSN

## 贴片芯片 CN3703
designator U?, comment CN3703
名称: 芯片; 封装: SSOP16; 单位: 片
footprint SSOP16
pins: 1 VG, 2 PGND, 3 GND, 4 ~{CHRG}, 5 ~{DONE}, 6 TEMP, 7 EOC, 8 COM1, 9 COM2, 10 TEST, 11 COM3, 12 NC, 13 CSP, 14 BAT, 15 VCC, 16 DRV

## 贴片芯片 CS1237
designator U?, comment CS1237
单位: 片; 封装: SOIC8; 名称: 贴片芯片
footprint SOIC8
pins: 1 REFIN, 2 GND, 3 AINN, 4 AINP, 5 SCLK, 6 ~{DRDY}/DOUT, 7 VDD, 8 REFOUT

## 贴片芯片 CS5463
designator U?, comment CS5463
footprint TSSOP28
pins: 1 XOUT, 2 CPUCLK, 3 VD+, 4 DGND, 5 SCLK, 6 SDO, 7 ~{CS}, 8 MODE, 9 VIN+, 10 VIN-, 11 VREFOUT, 12 VREFIN, 13 AGND, 14 VA+, 15 IIN-, 16 IIN+, 17 PFMON, 18 ~{E3}, 19 ~{REST}, 20 ~{INT}, 21 ~{E1}, 22 ~{E2}, 23 SDI, 24 XIN

## 贴片芯片 CS5530ISZ
designator U?, comment CS5530ISZ
单位: 片; 封装: SSOP20; 名称: 贴片芯片
footprint SSOP20
pins: 1 AIN1+, 2 AIN1-, 3 C1, 4 C2, 5 VA+, 6 VA-, 7 A0, 8 A1, 9 OSC2, 10 OSC1, 11 SCLK, 12 SDO, 13 SDI, 14 ~{CS}, 15 VD+, 16 DGND, 17 VREF-, 18 VREF+, 19 NC, 20 NC

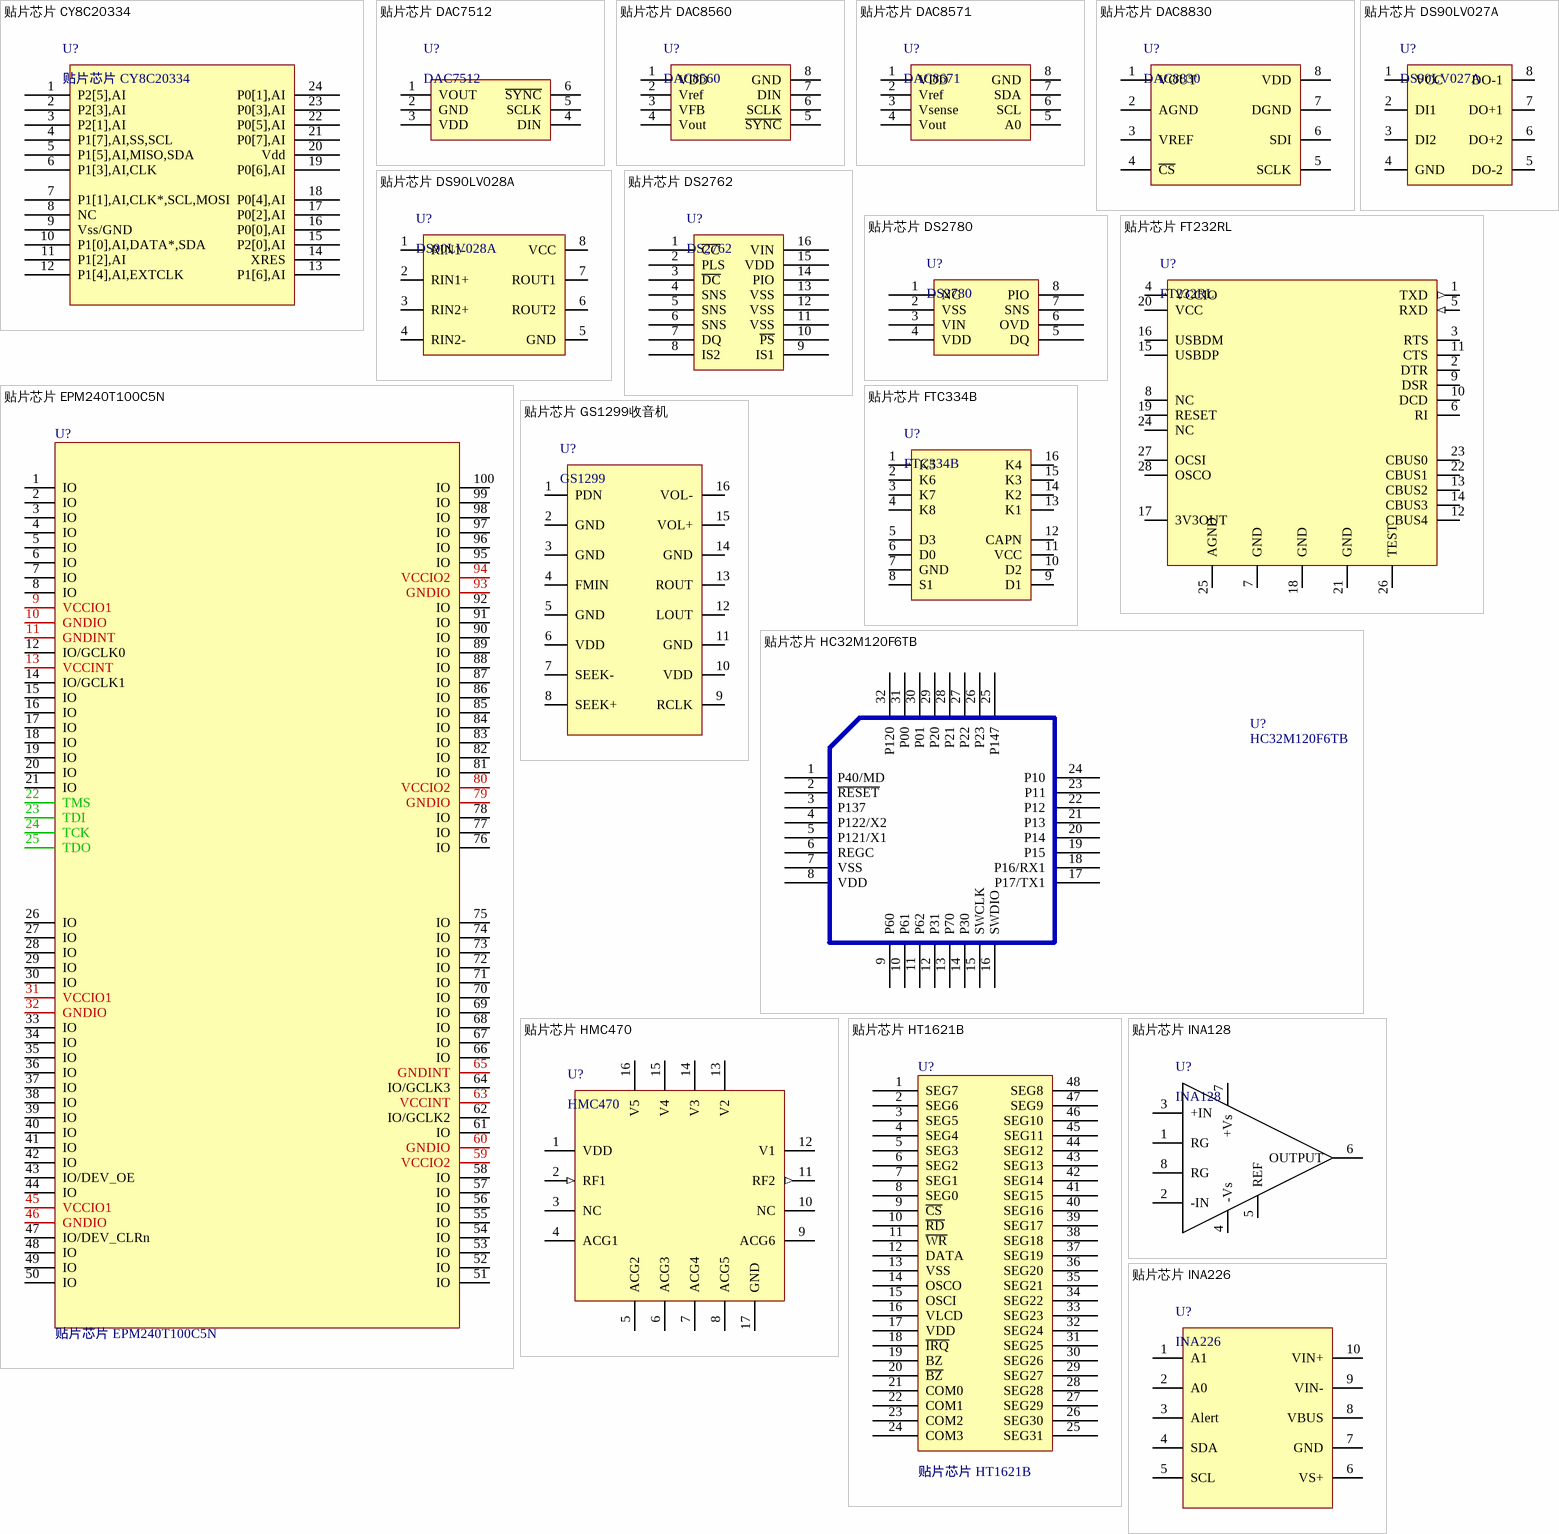
[diagram p15: symbols 贴片芯片 CY8C20334 to 贴片芯片 INA226]

## 贴片芯片 CY8C20334
designator U?
footprint QFN24
pins: 1 P2[5],AI, 2 P2[3],AI, 3 P2[1],AI, 4 P1[7],AI,SS,SCL, 5 P1[5],AI,MISO,SDA, 6 P1[3],AI,CLK, 7 P1[1],AI,CLK*,SCL,MOSI, 8 NC, 9 Vss/GND, 10 P1[0],AI,DATA*,SDA, 11 P1[2],AI, 12 P1[4],AI,EXTCLK, 13 P1[6],AI, 14 XRES, 15 P2[0],AI, 16 P0[0],AI, 17 P0[2],AI, 18 P0[4],AI, 19 P0[6],AI, 20 Vdd, 21 P0[7],AI, 22 P0[5],AI, 23 P0[3],AI, 24 P0[1],AI

## 贴片芯片 DAC7512
designator U?, comment DAC7512
footprint SOT-23-6
pins: 1 VOUT, 2 GND, 3 VDD, 4 DIN, 5 SCLK, 6 ~{SYNC}

## 贴片芯片 DAC8560
designator U?, comment DAC8560
单位: 片; 封装: MSOP8; 名称: 贴片芯片
footprint MSOP8
pins: 1 VDD, 2 Vref, 3 VFB, 4 Vout, 5 ~{SYNC}, 6 SCLK, 7 DIN, 8 GND

## 贴片芯片 DAC8571
designator U?, comment DAC8671
单位: 片; 封装: MSOP8; 名称: 贴片芯片
footprint MSOP8
pins: 1 VDD, 2 Vref, 3 Vsense, 4 Vout, 5 A0, 6 SCL, 7 SDA, 8 GND

## 贴片芯片 DAC8830
designator U?, comment DAC8830
单位: 片; 封装: soic8; 名称: 贴片芯片
footprint soic8
pins: 1 VOUT, 2 AGND, 3 VREF, 4 ~{CS}, 5 SCLK, 6 SDI, 7 DGND, 8 VDD

## 贴片芯片 DS90LV027A
designator U?, comment DS90LV027A
差分驱动器; 单位: 片; 封装: SOIC8; 名称: 贴片芯片
footprint SOIC8
pins: 1 VCC, 2 DI1, 3 DI2, 4 GND, 5 DO-2, 6 DO+2, 7 DO+1, 8 DO-1

## 贴片芯片 DS90LV028A
designator U?, comment DS90LV028A
差分接收器; 单位: 片; 封装: SOIC8; 名称: 贴片芯片
footprint SOIC8
pins: 1 RIN1-, 2 RIN1+, 3 RIN2+, 4 RIN2-, 5 GND, 6 ROUT2, 7 ROUT1, 8 VCC

## 贴片芯片 DS2762
designator U?, comment DS2762
单位: 片; 名称: 贴片芯片; 封装: *
footprint SOIC16 (Small Outline; 16 Leads; Body Width 3.9 mm; Pitch 1.27 mm)
pins: 1 ~{CC}, 2 PLS, 3 ~{DC}, 4 SNS, 5 SNS, 6 SNS, 7 DQ, 8 IS2, 9 IS1, 10 ~{PS}, 11 VSS, 12 VSS, 13 VSS, 14 PIO, 15 VDD, 16 VIN

## 贴片芯片 DS2780
designator U?, comment DS2780
单位: 片; 名称: 贴片芯片; 封装: *
footprint SOIC8
pins: 1 NC, 2 VSS, 3 VIN, 4 VDD, 5 DQ, 6 OVD, 7 SNS, 8 PIO

## 贴片芯片 EPM240T100C5N
designator U?
封装: TQFP100; 单位: 片; 名称: 贴片芯片
footprint TQFP100 (Thin QFP, 100-Leads, Body 14x14mm, Pitch 0.5mm, IPC Low Density)
pins: 1 IO, 2 IO, 3 IO, 4 IO, 5 IO, 6 IO, 7 IO, 8 IO, 9 VCCIO1, 10 GNDIO, 11 GNDINT, 12 IO/GCLK0, 13 VCCINT, 14 IO/GCLK1, 15 IO, 16 IO, 17 IO, 18 IO, 19 IO, 20 IO, 21 IO, 22 TMS, 23 TDI, 24 TCK, 25 TDO, 26 IO, 27 IO, 28 IO, 29 IO, 30 IO, 31 VCCIO1, 32 GNDIO, 33 IO, 34 IO, 35 IO, 36 IO, 37 IO, 38 IO, 39 IO, 40 IO, 41 IO, 42 IO, 43 IO/DEV_OE, 44 IO, 45 VCCIO1, 46 GNDIO, 47 IO/DEV_CLRn, 48 IO, 49 IO, 50 IO, 51 IO, 52 IO, 53 IO, 54 IO, 55 IO, 56 IO, 57 IO, 58 IO, 59 VCCIO2, 60 GNDIO, 61 IO, 62 IO/GCLK2, 63 VCCINT, 64 IO/GCLK3, 65 GNDINT, 66 IO, 67 IO, 68 IO, 69 IO, 70 IO, 71 IO, 72 IO, 73 IO, 74 IO, 75 IO, 76 IO, 77 IO, 78 IO, 79 GNDIO, 80 VCCIO2, 81 IO, 82 IO, 83 IO, 84 IO, 85 IO, 86 IO, 87 IO, 88 IO, 89 IO, 90 IO, 91 IO, 92 IO, 93 GNDIO, 94 VCCIO2, 95 IO, 96 IO, 97 IO, 98 IO, 99 IO, 100 IO

## 贴片芯片 FT232RL
designator U?, comment FT232RL
封装: SSOP28; 名称: 贴片芯片; 单位: 片
footprint SSOP28
pins: 1 TXD (out), 2 DTR, 3 RTS, 4 VCCIO, 5 RXD (in), 6 RI, 7 GND, 8 NC, 9 DSR, 10 DCD, 11 CTS, 12 CBUS4, 13 CBUS2, 14 CBUS3, 15 USBDP, 16 USBDM, 17 3V3OUT, 18 GND, 19 RESET, 20 VCC, 21 GND, 22 CBUS1, 23 CBUS0, 24 NC, 25 AGND, 26 TEST, 27 OCSI, 28 OSCO

## 贴片芯片 FTC334B
designator U?, comment FTC334B
触摸按键芯片; 单位: 片; 封装: SOIC16; 名称: 芯片
footprint SOIC16 (Small Outline; 16 Leads; Body Width 3.9 mm; Pitch 1.27 mm)
pins: 1 K5, 2 K6, 3 K7, 4 K8, 5 D3, 6 D0, 7 GND, 8 S1, 9 D1, 10 D2, 11 VCC, 12 CAPN, 13 K1, 14 K2, 15 K3, 16 K4

## 贴片芯片 GS1299收音机
designator U?, comment GS1299
footprint SOIC16 (Small Outline; 16 Leads; Body Width 3.9 mm; Pitch 1.27 mm)
pins: 1 PDN, 2 GND, 3 GND, 4 FMIN, 5 GND, 6 VDD, 7 SEEK-, 8 SEEK+, 9 RCLK, 10 VDD, 11 GND, 12 LOUT, 13 ROUT, 14 GND, 15 VOL+, 16 VOL-

## 贴片芯片 HC32M120F6TB
designator U?, comment HC32M120F6TB
名称: 贴片芯片; 封装: LQFP32; 单位: 片
footprint LQFP32
pins: 1 P40/MD, 2 ~{RESET}, 3 P137, 4 P122/X2, 5 P121/X1, 6 REGC, 7 VSS, 8 VDD, 9 P60, 10 P61, 11 P62, 12 P31, 13 P70, 14 P30, 15 SWCLK, 16 SWDIO, 17 P17/TX1, 18 P16/RX1, 19 P15, 20 P14, 21 P13, 22 P12, 23 P11, 24 P10, 25 P147, 26 P23, 27 P22, 28 P21, 29 P20, 30 P01, 31 P00, 32 P120

## 贴片芯片 HMC470
designator U?, comment HMC470
程控衰减器; 单位: 片; 封装: QFN16; 名称: 贴片芯片
footprint QFN16
pins: 1 VDD, 2 RF1 (in), 3 NC, 4 ACG1, 5 ACG2, 6 ACG3, 7 ACG4, 8 ACG5, 9 ACG6, 10 NC, 11 RF2 (out), 12 V1, 13 V2, 14 V3, 15 V4, 16 V5, 17 GND

## 贴片芯片 HT1621B
designator U?
单位: 片; 封装: SSOP-A; 名称: HT1621B
footprint SSOP48
pins: 1 SEG7, 2 SEG6, 3 SEG5, 4 SEG4, 5 SEG3, 6 SEG2, 7 SEG1, 8 SEG0, 9 ~{CS}, 10 ~{RD}, 11 ~{WR}, 12 DATA, 13 VSS, 14 OSCO, 15 OSCI, 16 VLCD, 17 VDD, 18 ~{IRQ}, 19 BZ, 20 ~{BZ}, 21 COM0, 22 COM1, 23 COM2, 24 COM3, 25 SEG31, 26 SEG30, 27 SEG29, 28 SEG28, 29 SEG27, 30 SEG26, 31 SEG25, 32 SEG24, 33 SEG23, 34 SEG22, 35 SEG21, 36 SEG20, 37 SEG19, 38 SEG18, 39 SEG17, 40 SEG16, 41 SEG15, 42 SEG14, 43 SEG13, 44 SEG12, 45 SEG11, 46 SEG10, 47 SEG9, 48 SEG8

## 贴片芯片 INA128
designator U?, comment INA128
单位: 片; 封装: SOIC8; 名称: 贴片芯片
footprint SOIC8
pins: 1 RG, 2 -IN, 3 +IN, 4 -Vs, 5 REF, 6 OUTPUT, 7 +Vs, 8 RG

## 贴片芯片 INA226
designator U?, comment INA226
单位: 片; 封装: MSOP10; 名称: 贴片芯片
footprint MSOP10
pins: 1 A1, 2 A0, 3 Alert, 4 SDA, 5 SCL, 6 VS+, 7 GND, 8 VBUS, 9 VIN-, 10 VIN+

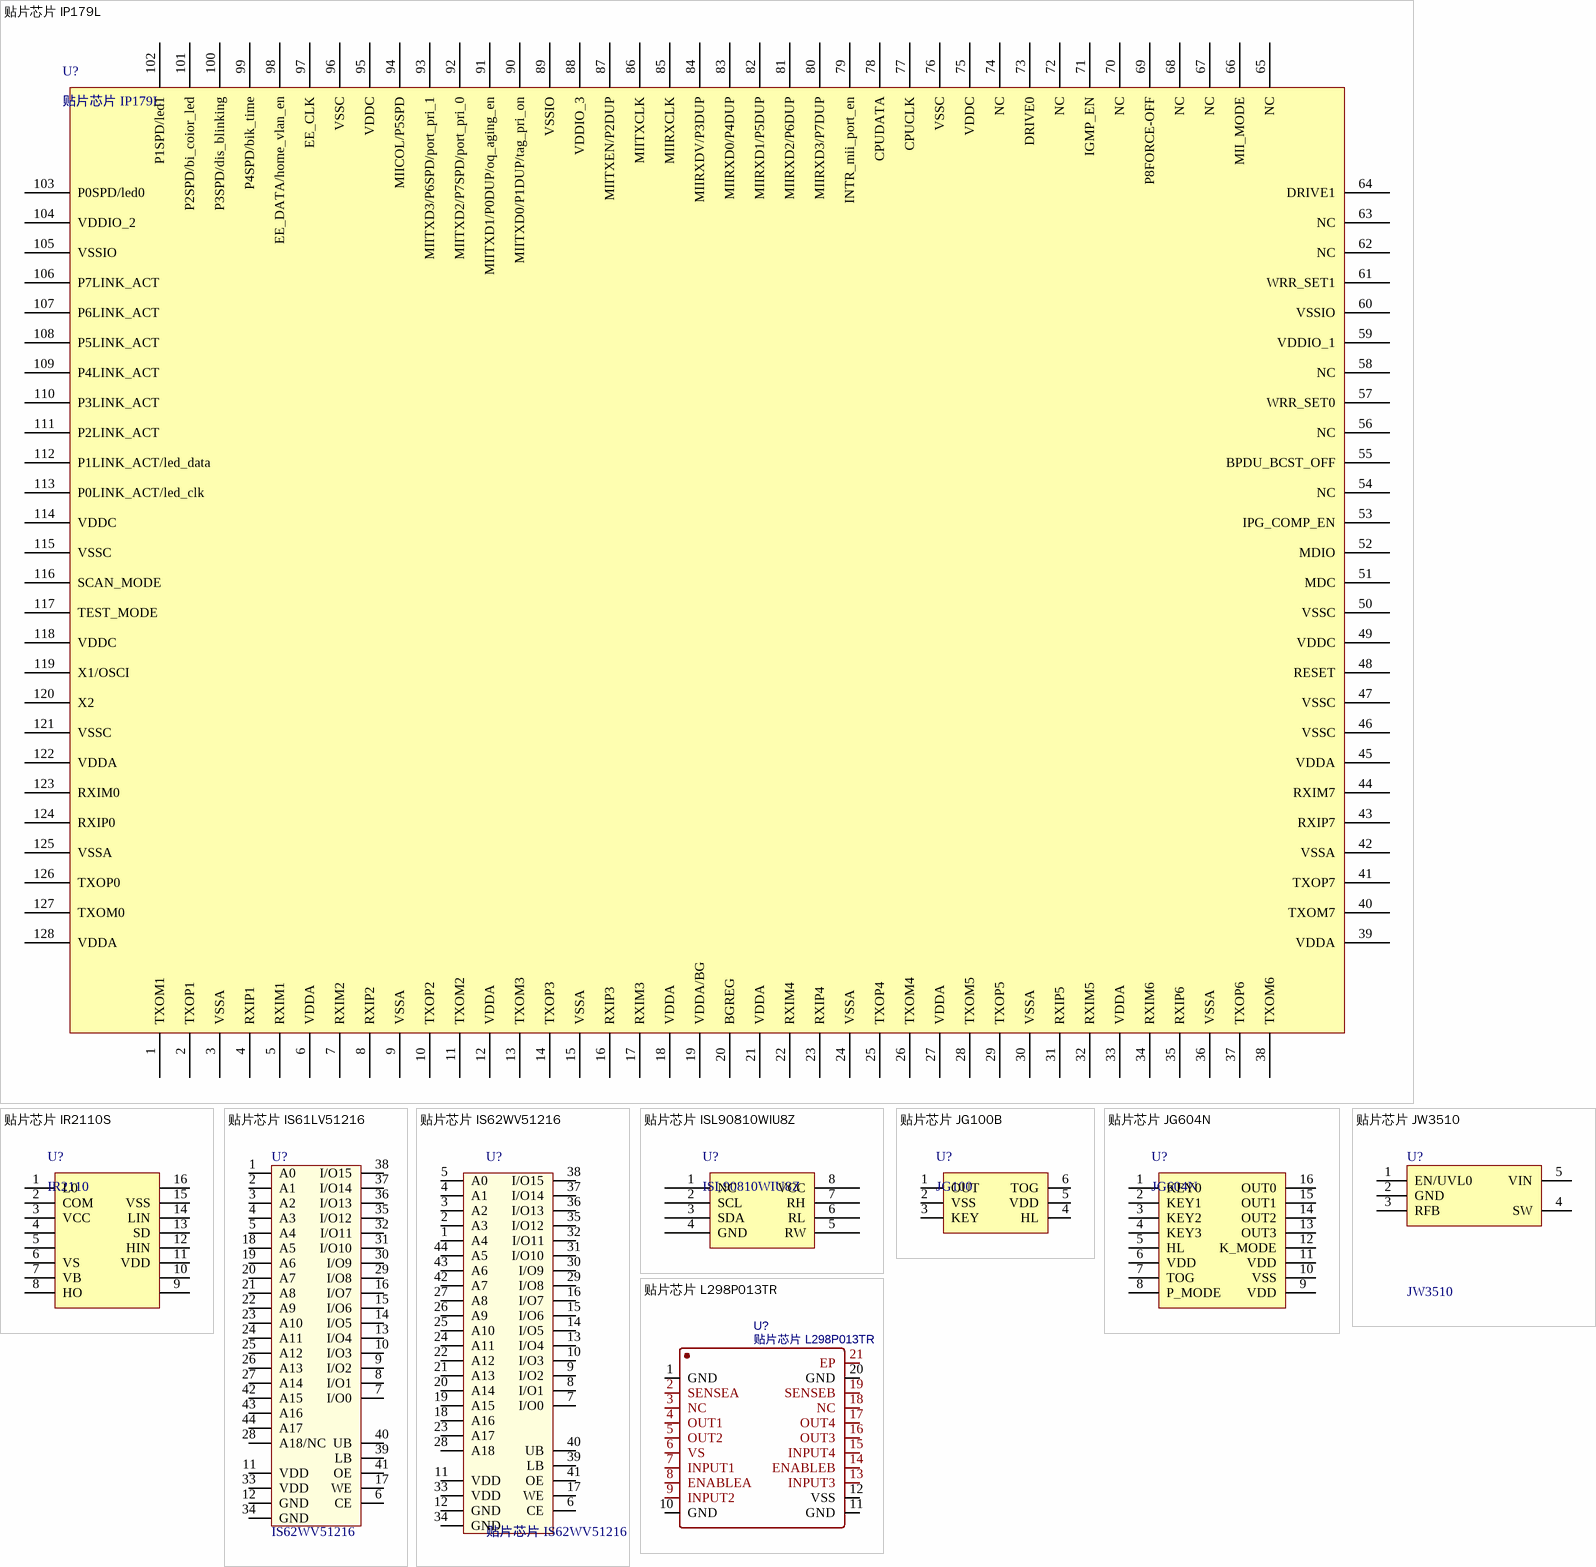
[diagram p16: symbols 贴片芯片 IP179L to 贴片芯片 L298P013TR]

## 贴片芯片 IP179L
designator U?
封装: LQFP128; 单位: 片; 名称: 贴片芯片
footprint LQFP128
pins: 1 TXOM1, 2 TXOP1, 3 VSSA, 4 RXIP1, 5 RXIM1, 6 VDDA, 7 RXIM2, 8 RXIP2, 9 VSSA, 10 TXOP2, 11 TXOM2, 12 VDDA, 13 TXOM3, 14 TXOP3, 15 VSSA, 16 RXIP3, 17 RXIM3, 18 VDDA, 19 VDDA/BG, 20 BGREG, 21 VDDA, 22 RXIM4, 23 RXIP4, 24 VSSA, 25 TXOP4, 26 TXOM4, 27 VDDA, 28 TXOM5, 29 TXOP5, 30 VSSA, 31 RXIP5, 32 RXIM5, 33 VDDA, 34 RXIM6, 35 RXIP6, 36 VSSA, 37 TXOP6, 38 TXOM6, 39 VDDA, 40 TXOM7, 41 TXOP7, 42 VSSA, 43 RXIP7, 44 RXIM7, 45 VDDA, 46 VSSC, 47 VSSC, 48 RESET, 49 VDDC, 50 VSSC, 51 MDC, 52 MDIO, 53 IPG_COMP_EN, 54 NC, 55 BPDU_BCST_OFF, 56 NC, 57 WRR_SET0, 58 NC, 59 VDDIO_1, 60 VSSIO, 61 WRR_SET1, 62 NC, 63 NC, 64 DRIVE1, 65 NC, 66 MII_MODE, 67 NC, 68 NC, 69 P8FORCE-OFF, 70 NC, 71 IGMP_EN, 72 NC, 73 DRIVE0, 74 NC, 75 VDDC, 76 VSSC, 77 CPUCLK, 78 CPUDATA, 79 INTR_mii_port_en, 80 MIIRXD3/P7DUP, 81 MIIRXD2/P6DUP, 82 MIIRXD1/P5DUP, 83 MIIRXD0/P4DUP, 84 MIIRXDV/P3DUP, 85 MIIRXCLK, 86 MIITXCLK, 87 MIITXEN/P2DUP, 88 VDDIO_3, 89 VSSIO, 90 MIITXD0/P1DUP/tag_pri_on, 91 MIITXD1/P0DUP/oq_aging_en, 92 MIITXD2/P7SPD/port_pri_0, 93 MIITXD3/P6SPD/port_pri_1, 94 MIICOL/P5SPD, 95 VDDC, 96 VSSC, 97 EE_CLK, 98 EE_DATA/home_vlan_en, 99 P4SPD/bik_time, 100 P3SPD/dis_blinking, 101 P2SPD/bi_coior_led, 102 P1SPD/led1, 103 P0SPD/led0, 104 VDDIO_2, 105 VSSIO, 106 P7LINK_ACT, 107 P6LINK_ACT, 108 P5LINK_ACT, 109 P4LINK_ACT, 110 P3LINK_ACT, 111 P2LINK_ACT, 112 P1LINK_ACT/led_data, 113 P0LINK_ACT/led_clk, 114 VDDC, 115 VSSC, 116 SCAN_MODE, 117 TEST_MODE, 118 VDDC, 119 X1/OSCI, 120 X2, 121 VSSC, 122 VDDA, 123 RXIM0, 124 RXIP0, 125 VSSA, 126 TXOP0, 127 TXOM0, 128 VDDA

## 贴片芯片 IR2110S
designator U?, comment IR2110
pins: 1 L0, 2 COM, 3 VCC, 4, 5, 6 VS, 7 VB, 8 HO, 9, 10, 11 VDD, 12 HIN, 13 SD, 14 LIN, 15 VSS, 16

## 贴片芯片 IS61LV51216
designator U?, comment IS62WV51216
单位: 片; 封装: TSOP44; 名称: RAM芯片
footprint TSOP44
pins: 1 A0, 2 A1, 3 A2, 4 A3, 5 A4, 6 CE, 7 I/O0, 8 I/O1, 9 I/O2, 10 I/O3, 11 VDD, 12 GND, 13 I/O4, 14 I/O5, 15 I/O6, 16 I/O7, 17 WE, 18 A5, 19 A6, 20 A7, 21 A8, 22 A9, 23 A10, 24 A11, 25 A12, 26 A13, 27 A14, 28 A18/NC, 29 I/O8, 30 I/O9, 31 I/O10, 32 I/O11, 33 VDD, 34 GND, 35 I/O12, 36 I/O13, 37 I/O14, 38 I/O15, 39 LB, 40 UB, 41 OE, 42 A15, 43 A16, 44 A17

## 贴片芯片 IS62WV51216
designator U?
footprint TSOP44
pins: 1 A4, 2 A3, 3 A2, 4 A1, 5 A0, 6 CE, 7 I/O0, 8 I/O1, 9 I/O2, 10 I/O3, 11 VDD, 12 GND, 13 I/O4, 14 I/O5, 15 I/O6, 16 I/O7, 17 WE, 18 A16, 19 A15, 20 A14, 21 A13, 22 A12, 23 A17, 24 A11, 25 A10, 26 A9, 27 A8, 28 A18, 29 I/O8, 30 I/O9, 31 I/O10, 32 I/O11, 33 VDD, 34 GND, 35 I/O12, 36 I/O13, 37 I/O14, 38 I/O15, 39 LB, 40 UB, 41 OE, 42 A7, 43 A6, 44 A5

## 贴片芯片 ISL90810WIU8Z
designator U?, comment ISL90810WIU8Z
单位: 片; 封装: 贴片; 名称: 数字电位器
footprint SOIC8
pins: 1 NC, 2 SCL, 3 SDA, 4 GND, 5 RW, 6 RL, 7 RH, 8 VCC

## 贴片芯片 JG100B
designator U?, comment JG100
单位: *; 封装: *; 名称: *
footprint SOT-23-6
pins: 1 OUT, 2 VSS, 3 KEY, 4 HL, 5 VDD, 6 TOG

## 贴片芯片 JG604N
designator U?, comment JG604N
单位: 个; 名称: 贴片芯片; 封装: SSOP16
footprint SSOP16
pins: 1 KEY0, 2 KEY1, 3 KEY2, 4 KEY3, 5 HL, 6 VDD, 7 TOG, 8 P_MODE, 9 VDD, 10 VSS, 11 VDD, 12 K_MODE, 13 OUT3, 14 OUT2, 15 OUT1, 16 OUT0

## 贴片芯片 JW3510
designator U?, comment JW3510
名称: 芯片; 封装: 贴片; 单位: 个
footprint SOT-23-5
pins: 1 EN/UVL0, 2 GND, 3 RFB, 4 SW, 5 VIN
2 alternate drawings of the same symbol

## 贴片芯片 L298P013TR
designator U?
BOM_Manufacturer: STMicroelectronics; Contributor: LCSC; BOM_Supplier: LCSC; BOM_Supplier Part: C111210; BOM_Manufacturer Part: L298P013TR; BOM_JLCPCB Part Class: Extended Part; spicePre: U; spiceSymbolName: L298P013TR
footprint POWERSO20_L15.9-W11.0-P1.27-LS14.2-BL-EP
pins: 1 GND, 2 SENSEA, 3 NC, 4 OUT1, 5 OUT2, 6 VS, 7 INPUT1, 8 ENABLEA, 9 INPUT2, 10 GND, 11 GND, 12 VSS, 13 INPUT3, 14 ENABLEB, 15 INPUT4, 16 OUT3, 17 OUT4, 18 NC, 19 SENSEB, 20 GND, 21 EP

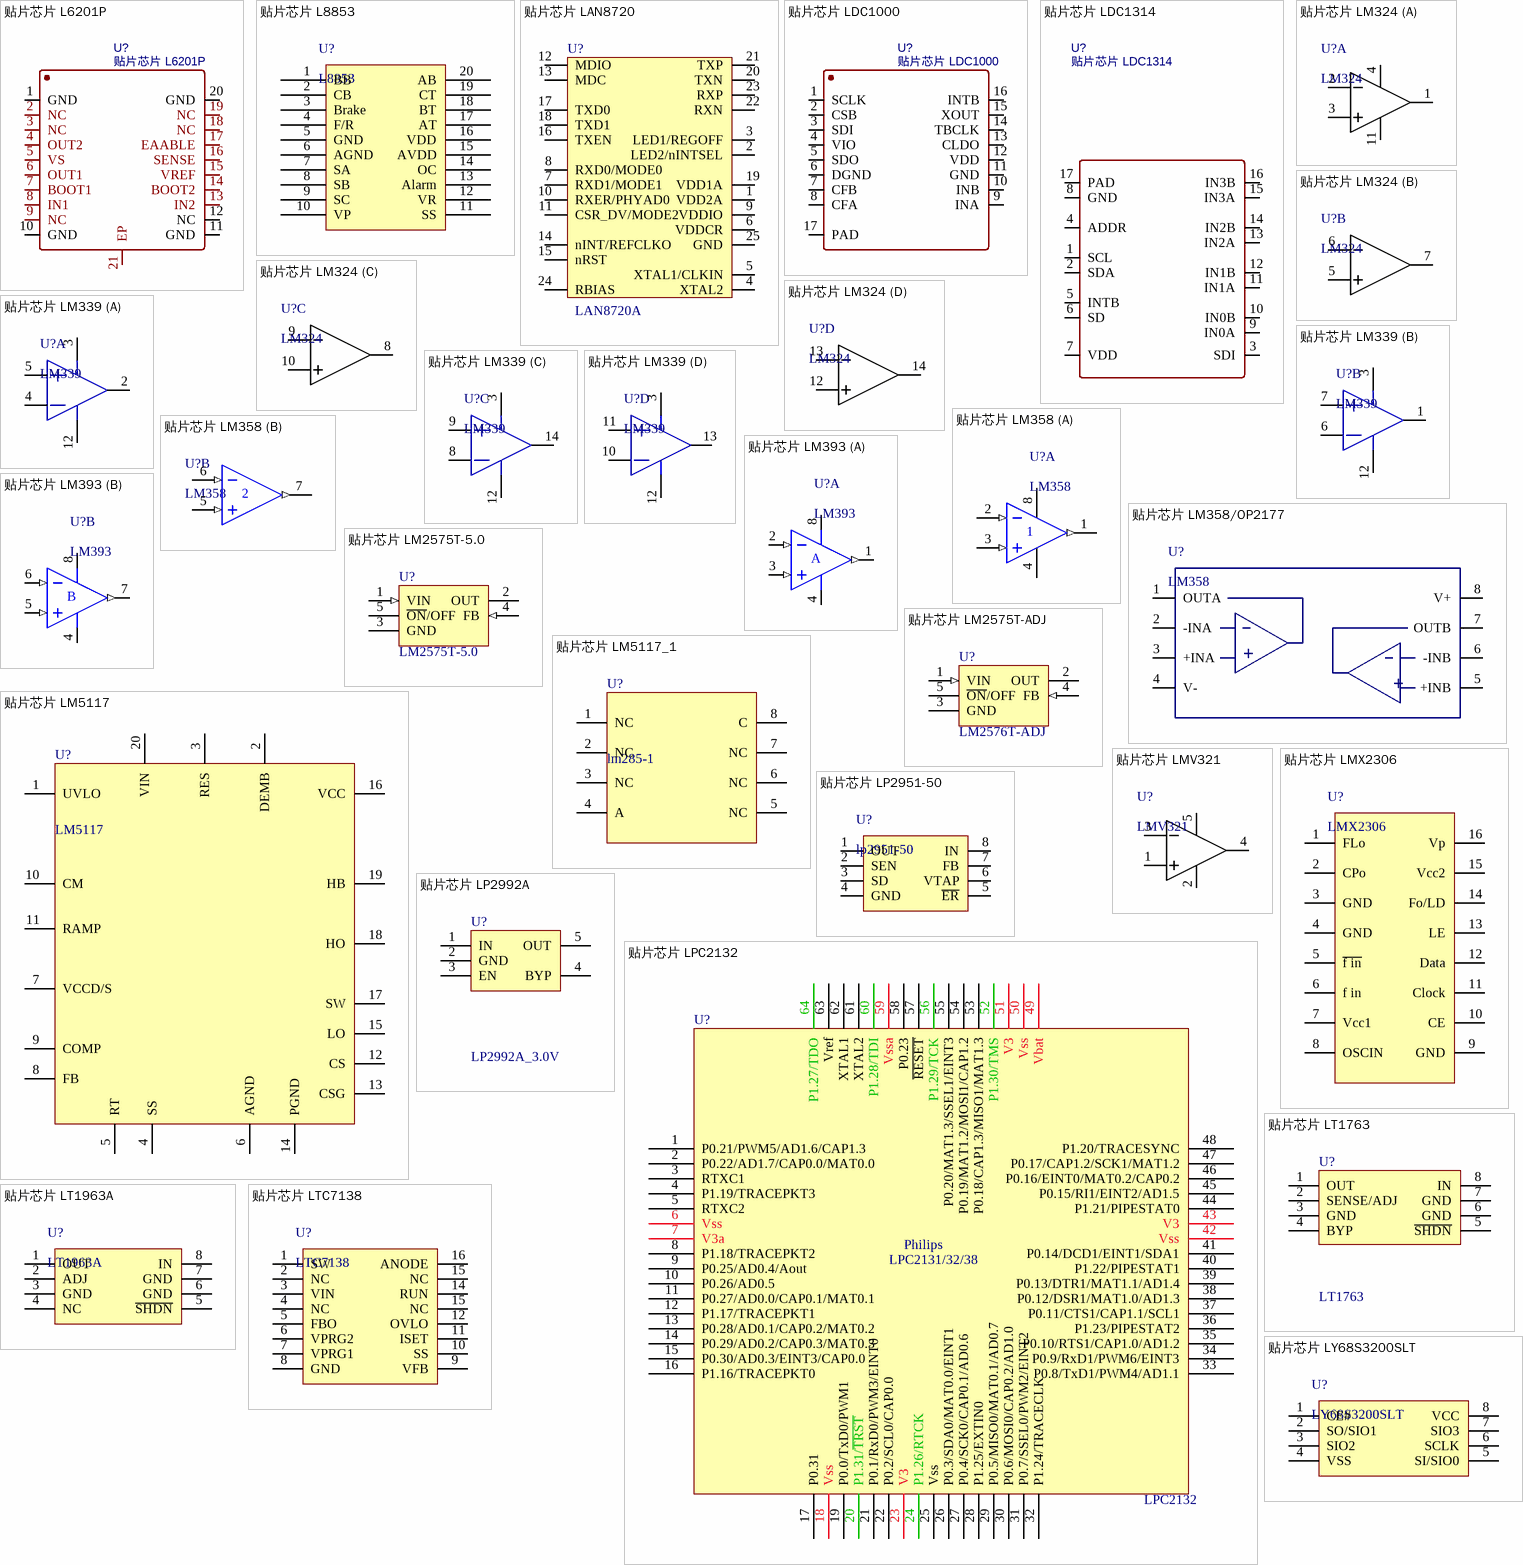
[diagram p17: symbols 贴片芯片 L6201P to 贴片芯片 LY68S3200SLT]

## 贴片芯片 L6201P
designator U?
footprint POWERSO20_L15.9-W11.0-P1.27-LS14.2-BL-EP
pins: 1 GND, 2 NC, 3 NC, 4 OUT2, 5 VS, 6 OUT1, 7 BOOT1, 8 IN1, 9 NC, 10 GND, 11 GND, 12 NC, 13 IN2, 14 BOOT2, 15 VREF, 16 SENSE, 17 EAABLE, 18 NC, 19 NC, 20 GND, 21 EP

## 贴片芯片 L8853
designator U?, comment L8853
单位: 片; 名称: 贴片芯片; 封装: SSOP20
footprint L8853_SSOP
pins: 1 BB, 2 CB, 3 Brake, 4 F/R, 5 GND, 6 AGND, 7 SA, 8 SB, 9 SC, 10 VP, 11 SS, 12 VR, 13 Alarm, 14 OC, 15 AVDD, 16 VDD, 17 AT, 18 BT, 19 CT, 20 AB

## 贴片芯片 LAN8720
designator U?, comment LAN8720A
ETH PHY; 单位: 片; 名称: 贴片芯片; 封装: QFN24
footprint QFN24 (QFN, 24-Leads, Body 4.0x4.0mm (max), Pitch 0.50mm, IPC Medium Density)
pins: 1 VDD2A, 2 LED2/nINTSEL, 3 LED1/REGOFF, 4 XTAL2, 5 XTAL1/CLKIN, 6 VDDCR, 7 RXD1/MODE1, 8 RXD0/MODE0, 9 VDDIO, 10 RXER/PHYAD0, 11 CSR_DV/MODE2, 12 MDIO, 13 MDC, 14 nINT/REFCLKO, 15 nRST, 16 TXEN, 17 TXD0, 18 TXD1, 19 VDD1A, 20 TXN, 21 TXP, 22 RXN, 23 RXP, 24 RBIAS, 25 GND

## 贴片芯片 LDC1000
designator U?
footprint SON-16 (Footprint not found)
pins: 1 SCLK, 2 CSB, 3 SDI, 4 VIO, 5 SDO, 6 DGND, 7 CFB, 8 CFA, 9 INA, 10 INB, 11 GND, 12 VDD, 13 CLDO, 14 TBCLK, 15 XOUT, 16 INTB, 17 PAD